# Altium schematic symbol library FPGA_Lattice.SchLib: 24 symbols (part 1 of 3)
Pins are listed as number, name and electrical type; pins without a type are passive.

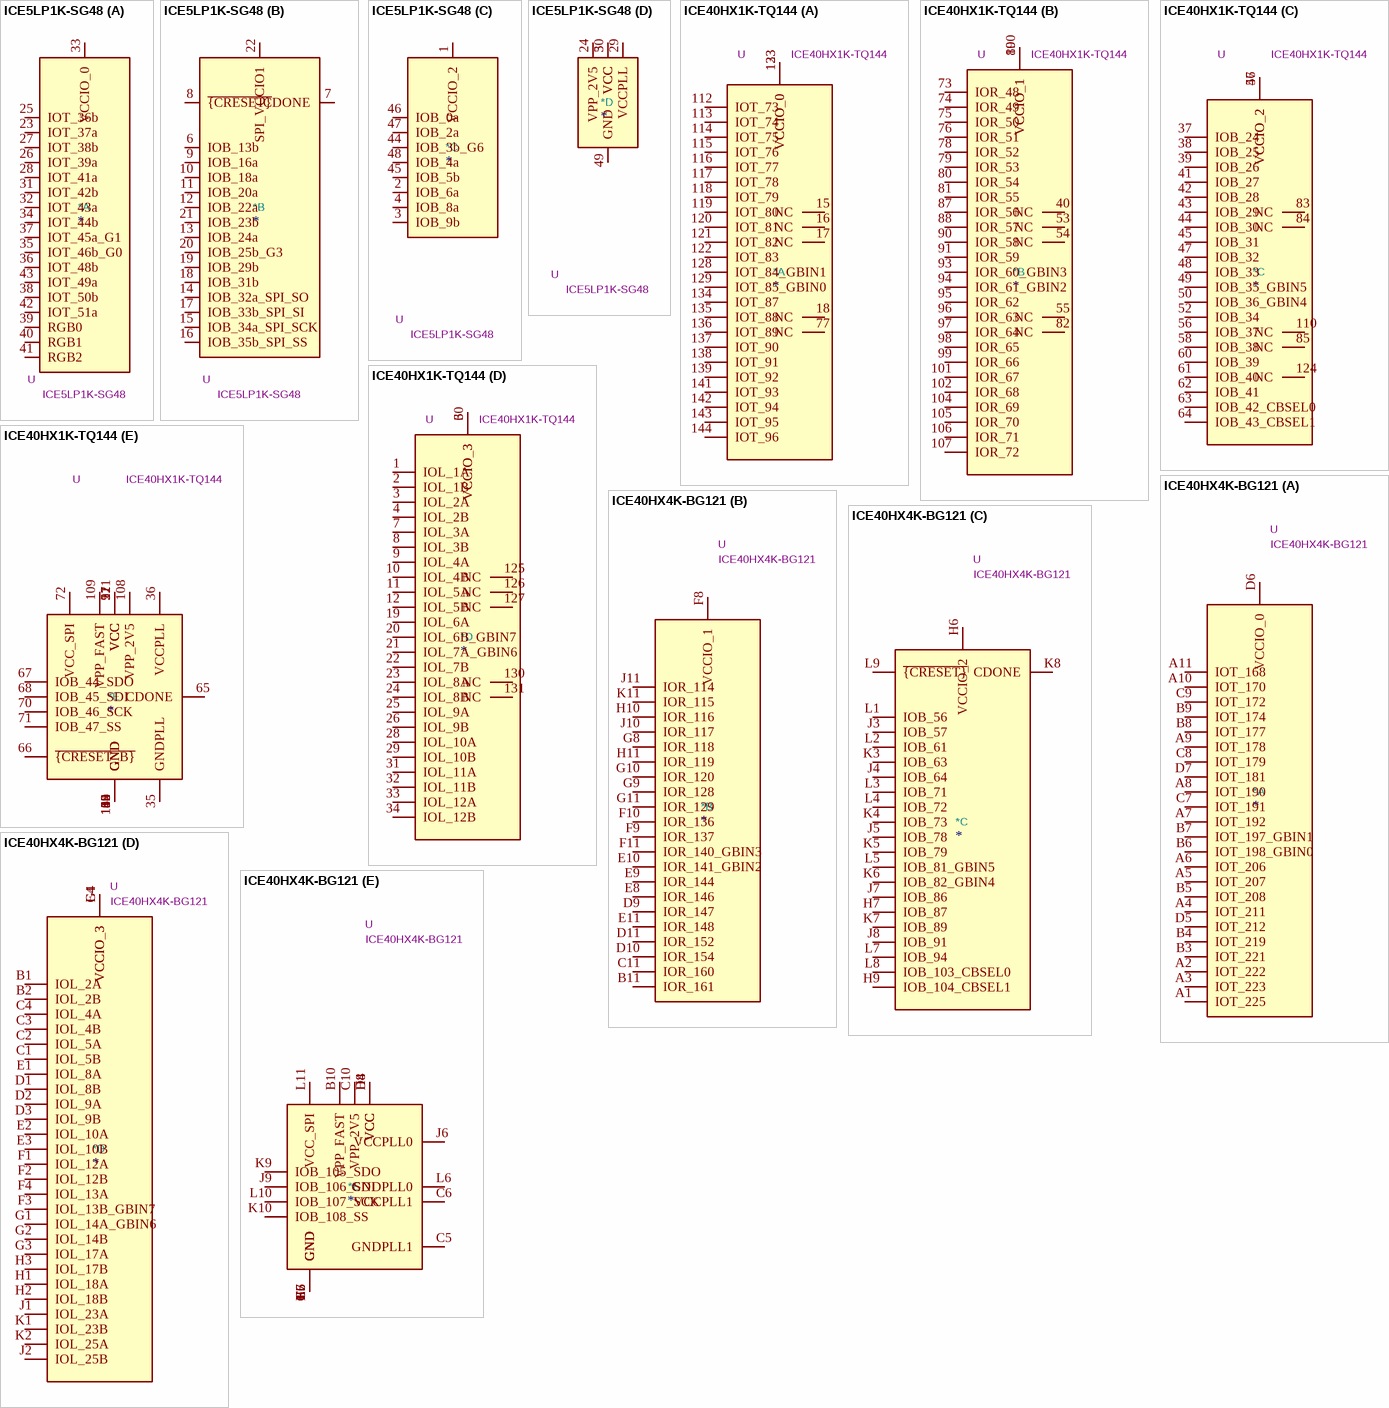
[diagram p0: symbols ICE5LP1K-SG48 to ICE40HX4K-BG121]

## ICE5LP1K-SG48
designator *  value ICE5LP1K-SG48  Reference: U
iCE40 Ultra FPGA, 1100 LUTs, 1.2V, 48-pin QFN; ki_keywords: FPGA programmable logic; ki_fp_filters: QFN*1EP*7x7mm*P0.5mm*; Footprint: Package_DFN_QFN:QFN-48-1EP_7x7mm_P0.5mm_EP5.6x5.6mm; Datasheet: http://www.latticesemi.com/Products/FPGAandCPLD/iCE40Ultra; Description_: iCE40 Ultra FPGA, 1100 LUTs, 1.2V, 48-pin QFN
part A pins: 23 IOT_37a, 25 IOT_36b, 26 IOT_39a, 27 IOT_38b, 28 IOT_41a, 31 IOT_42b, 32 IOT_43a, 33 VCCIO_0, 34 IOT_44b, 35 IOT_46b_G0, 36 IOT_48b, 37 IOT_45a_G1, 38 IOT_50b, 39 RGB0, 40 RGB1, 41 RGB2, 42 IOT_51a, 43 IOT_49a
part B pins: 6 IOB_13b, 7 CDONE, 8 ~{{CRESET}}, 9 IOB_16a, 10 IOB_18a, 11 IOB_20a, 12 IOB_22a, 13 IOB_24a, 14 IOB_32a_SPI_SO, 15 IOB_34a_SPI_SCK, 16 IOB_35b_SPI_SS, 17 IOB_33b_SPI_SI, 18 IOB_31b, 19 IOB_29b, 20 IOB_25b_G3, 21 IOB_23b, 22 SPI_VCCIO1
part C pins: 1 VCCIO_2, 2 IOB_6a, 3 IOB_9b, 4 IOB_8a, 44 IOB_3b_G6, 45 IOB_5b, 46 IOB_0a, 47 IOB_2a, 48 IOB_4a
part D pins: 5 VCC, 24 VPP_2V5, 29 VCCPLL, 30 VCC, 49 GND

## ICE40HX1K-TQ144
designator *  value ICE40HX1K-TQ144  Reference: U
iCE40 HX FPGA, 1280 LUTs, 1.2V, TQFP-144; ki_keywords: FPGA programmable logic; ki_fp_filters: TQFP*20x20mm*P0.5mm*; Footprint: Package_QFP:TQFP-144_20x20mm_P0.5mm; Datasheet: http://www.latticesemi.com/Products/FPGAandCPLD/iCE40; Description_: iCE40 HX FPGA, 1280 LUTs, 1.2V, TQFP-144
part A pins: 15 NC, 16 NC, 17 NC, 18 NC, 77 NC, 112 IOT_73, 113 IOT_74, 114 IOT_75, 115 IOT_76, 116 IOT_77, 117 IOT_78, 118 IOT_79, 119 IOT_80, 120 IOT_81, 121 IOT_82, 122 IOT_83, 123 VCCIO_0, 128 IOT_84_GBIN1, 129 IOT_85_GBIN0, 133 VCCIO_0, 134 IOT_87, 135 IOT_88, 136 IOT_89, 137 IOT_90, 138 IOT_91, 139 IOT_92, 141 IOT_93, 142 IOT_94, 143 IOT_95, 144 IOT_96
part B pins: 40 NC, 53 NC, 54 NC, 55 NC, 73 IOR_48, 74 IOR_49, 75 IOR_50, 76 IOR_51, 78 IOR_52, 79 IOR_53, 80 IOR_54, 81 IOR_55, 82 NC, 87 IOR_56, 88 IOR_57, 89 VCCIO_1, 90 IOR_58, 91 IOR_59, 93 IOR_60_GBIN3, 94 IOR_61_GBIN2, 95 IOR_62, 96 IOR_63, 97 IOR_64, 98 IOR_65, 99 IOR_66, 100 VCCIO_1, 101 IOR_67, 102 IOR_68, 104 IOR_69, 105 IOR_70, 106 IOR_71, 107 IOR_72
part C pins: 37 IOB_24, 38 IOB_25, 39 IOB_26, 41 IOB_27, 42 IOB_28, 43 IOB_29, 44 IOB_30, 45 IOB_31, 46 VCCIO_2, 47 IOB_32, 48 IOB_33, 49 IOB_35_GBIN5, 50 IOB_36_GBIN4, 52 IOB_34, 56 IOB_37, 57 VCCIO_2, 58 IOB_38, 60 IOB_39, 61 IOB_40, 62 IOB_41, 63 IOB_42_CBSEL0, 64 IOB_43_CBSEL1, 83 NC, 84 NC, 85 NC, 110 NC, 124 NC
part D pins: 1 IOL_1A, 2 IOL_1B, 3 IOL_2A, 4 IOL_2B, 6 VCCIO_3, 7 IOL_3A, 8 IOL_3B, 9 IOL_4A, 10 IOL_4B, 11 IOL_5A, 12 IOL_5B, 19 IOL_6A, 20 IOL_6B_GBIN7, 21 IOL_7A_GBIN6, 22 IOL_7B, 23 IOL_8A, 24 IOL_8B, 25 IOL_9A, 26 IOL_9B, 28 IOL_10A, 29 IOL_10B, 30 VCCIO_3, 31 IOL_11A, 32 IOL_11B, 33 IOL_12A, 34 IOL_12B, 125 NC, 126 NC, 127 NC, 130 NC, 131 NC
part E pins: 5 GND, 13 GND, 14 GND, 27 VCC, 35 GNDPLL, 36 VCCPLL, 51 VCC, 59 GND, 65 CDONE, 66 ~{{CRESET_B}}, 67 IOB_44_SDO, 68 IOB_45_SDI, 69 GND, 70 IOB_46_SCK, 71 IOB_47_SS, 72 VCC_SPI, 86 GND, 92 VCC, 103 GND, 108 VPP_2V5, 109 VPP_FAST, 111 VCC, 132 GND, 140 GND

## ICE40HX4K-BG121
designator *  value ICE40HX4K-BG121  Reference: U
iCE40 HX FPGA, 3520 LUTs, 1.2V, BGA-121; ki_keywords: FPGA programmable logic; ki_fp_filters: BGA*9.0x9.0mm*Layout11x11*P0.8mm*Ball0.4mm*; Footprint: Package_BGA:BGA-121_9.0x9.0mm_Layout11x11_P0.8mm_Ball0.4mm_Pad0.35mm_NSMD; Datasheet: http://www.latticesemi.com/Products/FPGAandCPLD/iCE40; Description_: iCE40 HX FPGA, 3520 LUTs, 1.2V, BGA-121
part A pins: A1 IOT_225, A2 IOT_222, A3 IOT_223, A4 IOT_211, A5 IOT_207, A6 IOT_206, A7 IOT_192, A8 IOT_190, A9 IOT_178, A10 IOT_170, A11 IOT_168, B3 IOT_221, B4 IOT_219, B5 IOT_208, B6 IOT_198_GBIN0, B7 IOT_197_GBIN1, B8 IOT_177, B9 IOT_174, C7 IOT_191, C8 IOT_179, C9 IOT_172, D5 IOT_212, D6 VCCIO_0, D7 IOT_181
part B pins: B11 IOR_161, C11 IOR_160, D9 IOR_147, D10 IOR_154, D11 IOR_152, E8 IOR_146, E9 IOR_144, E10 IOR_141_GBIN2, E11 IOR_148, F8 VCCIO_1, F9 IOR_137, F10 IOR_136, F11 IOR_140_GBIN3, G8 IOR_118, G9 IOR_128, G10 IOR_120, G11 IOR_129, H10 IOR_116, H11 IOR_119, J10 IOR_117, J11 IOR_114, K11 IOR_115
part C pins: H6 VCCIO_2, H7 IOB_87, H9 IOB_104_CBSEL1, J3 IOB_57, J4 IOB_64, J5 IOB_78, J7 IOB_86, J8 IOB_91, K3 IOB_63, K4 IOB_73, K5 IOB_79, K6 IOB_82_GBIN4, K7 IOB_89, K8 CDONE, L1 IOB_56, L2 IOB_61, L3 IOB_71, L4 IOB_72, L5 IOB_81_GBIN5, L7 IOB_94, L8 IOB_103_CBSEL0, L9 ~{{CRESET}}
part D pins: B1 IOL_2A, B2 IOL_2B, C1 IOL_5B, C2 IOL_5A, C3 IOL_4B, C4 IOL_4A, D1 IOL_8B, D2 IOL_9A, D3 IOL_9B, E1 IOL_8A, E2 IOL_10A, E3 IOL_10B, E4 VCCIO_3, F1 IOL_12A, F2 IOL_12B, F3 IOL_13B_GBIN7, F4 IOL_13A, G1 IOL_14A_GBIN6, G2 IOL_14B, G3 IOL_17A, G4 VCCIO_3, H1 IOL_18A, H2 IOL_18B, H3 IOL_17B, J1 IOL_23A, J2 IOL_25B, K1 IOL_23B, K2 IOL_25A
part E pins: B10 VPP_FAST, C5 GNDPLL1, C6 VCCPLL1, C10 VPP_2V5, D4 VCC, D8 VCC, E5 GND, E6 GND, E7 GND, F5 GND, F6 GND, F7 GND, G5 GND, G6 GND, G7 GND, H4 VCC, H5 GND, H8 VCC, J6 VCCPLL0, J9 IOB_106_SDI, K9 IOB_105_SDO, K10 IOB_108_SS, L6 GNDPLL0, L10 IOB_107_SCK, L11 VCC_SPI

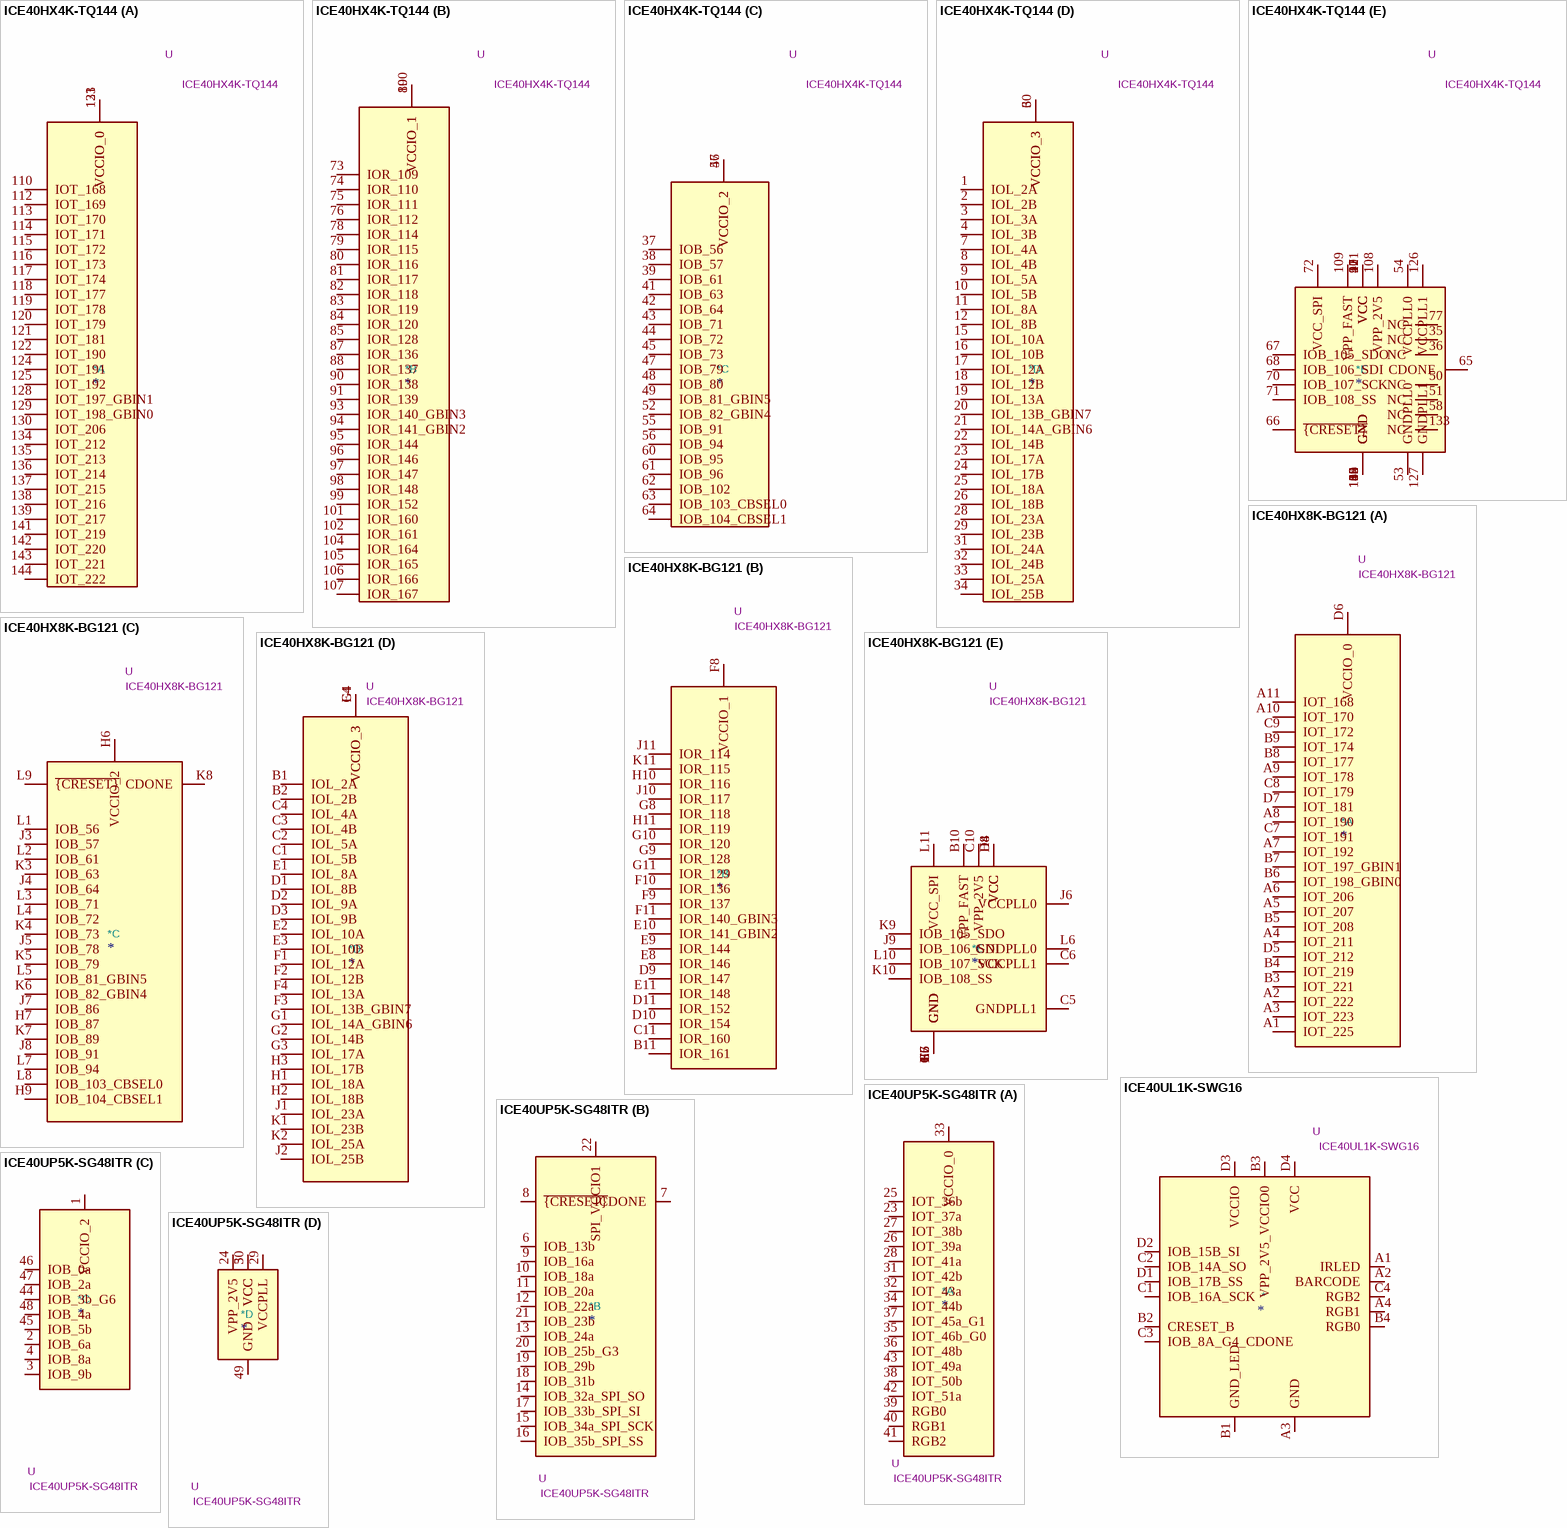
[diagram p1: symbols ICE40HX4K-TQ144 to ICE40UP5K-SG48ITR]

## ICE40HX4K-TQ144
designator *  value ICE40HX4K-TQ144  Reference: U
iCE40 HX FPGA, 3520 LUTs, 1.2V, TQFP-144; ki_keywords: FPGA programmable logic; ki_fp_filters: TQFP*20x20mm*P0.5mm*; Footprint: Package_QFP:TQFP-144_20x20mm_P0.5mm; Datasheet: http://www.latticesemi.com/Products/FPGAandCPLD/iCE40; Description_: iCE40 HX FPGA, 3520 LUTs, 1.2V, TQFP-144
part A pins: 110 IOT_168, 112 IOT_169, 113 IOT_170, 114 IOT_171, 115 IOT_172, 116 IOT_173, 117 IOT_174, 118 IOT_177, 119 IOT_178, 120 IOT_179, 121 IOT_181, 122 IOT_190, 123 VCCIO_0, 124 IOT_191, 125 IOT_192, 128 IOT_197_GBIN1, 129 IOT_198_GBIN0, 130 IOT_206, 131 VCCIO_0, 134 IOT_212, 135 IOT_213, 136 IOT_214, 137 IOT_215, 138 IOT_216, 139 IOT_217, 141 IOT_219, 142 IOT_220, 143 IOT_221, 144 IOT_222
part B pins: 73 IOR_109, 74 IOR_110, 75 IOR_111, 76 IOR_112, 78 IOR_114, 79 IOR_115, 80 IOR_116, 81 IOR_117, 82 IOR_118, 83 IOR_119, 84 IOR_120, 85 IOR_128, 87 IOR_136, 88 IOR_137, 89 VCCIO_1, 90 IOR_138, 91 IOR_139, 93 IOR_140_GBIN3, 94 IOR_141_GBIN2, 95 IOR_144, 96 IOR_146, 97 IOR_147, 98 IOR_148, 99 IOR_152, 100 VCCIO_1, 101 IOR_160, 102 IOR_161, 104 IOR_164, 105 IOR_165, 106 IOR_166, 107 IOR_167
part C pins: 37 IOB_56, 38 IOB_57, 39 IOB_61, 41 IOB_63, 42 IOB_64, 43 IOB_71, 44 IOB_72, 45 IOB_73, 46 VCCIO_2, 47 IOB_79, 48 IOB_80, 49 IOB_81_GBIN5, 52 IOB_82_GBIN4, 55 IOB_91, 56 IOB_94, 57 VCCIO_2, 60 IOB_95, 61 IOB_96, 62 IOB_102, 63 IOB_103_CBSEL0, 64 IOB_104_CBSEL1
part D pins: 1 IOL_2A, 2 IOL_2B, 3 IOL_3A, 4 IOL_3B, 6 VCCIO_3, 7 IOL_4A, 8 IOL_4B, 9 IOL_5A, 10 IOL_5B, 11 IOL_8A, 12 IOL_8B, 15 IOL_10A, 16 IOL_10B, 17 IOL_12A, 18 IOL_12B, 19 IOL_13A, 20 IOL_13B_GBIN7, 21 IOL_14A_GBIN6, 22 IOL_14B, 23 IOL_17A, 24 IOL_17B, 25 IOL_18A, 26 IOL_18B, 28 IOL_23A, 29 IOL_23B, 30 VCCIO_3, 31 IOL_24A, 32 IOL_24B, 33 IOL_25A, 34 IOL_25B
part E pins: 5 GND, 13 GND, 14 GND, 27 VCC, 35 NC, 36 NC, 40 VCC, 50 NC, 51 NC, 53 GNDPLL0, 54 VCCPLL0, 58 NC, 59 GND, 65 CDONE, 66 ~{{CRESET}}, 67 IOB_105_SDO, 68 IOB_106_SDI, 69 GND, 70 IOB_107_SCK, 71 IOB_108_SS, 72 VCC_SPI, 77 NC, 86 GND, 92 VCC, 103 GND, 108 VPP_2V5, 109 VPP_FAST, 111 VCC, 126 VCCPLL1, 127 GNDPLL1, 132 GND, 133 NC, 140 GND

## ICE40HX8K-BG121
designator *  value ICE40HX8K-BG121  Reference: U
iCE40 HX FPGA, 7680 LUTs, 1.2V, BGA-121; ki_keywords: FPGA programmable logic; ki_fp_filters: BGA*9.0x9.0mm*Layout11x11*P0.8mm*Ball0.4mm*; Footprint: Package_BGA:BGA-121_9.0x9.0mm_Layout11x11_P0.8mm_Ball0.4mm_Pad0.35mm_NSMD; Datasheet: http://www.latticesemi.com/Products/FPGAandCPLD/iCE40; Description_: iCE40 HX FPGA, 7680 LUTs, 1.2V, BGA-121
part A pins: A1 IOT_225, A2 IOT_222, A3 IOT_223, A4 IOT_211, A5 IOT_207, A6 IOT_206, A7 IOT_192, A8 IOT_190, A9 IOT_178, A10 IOT_170, A11 IOT_168, B3 IOT_221, B4 IOT_219, B5 IOT_208, B6 IOT_198_GBIN0, B7 IOT_197_GBIN1, B8 IOT_177, B9 IOT_174, C7 IOT_191, C8 IOT_179, C9 IOT_172, D5 IOT_212, D6 VCCIO_0, D7 IOT_181
part B pins: B11 IOR_161, C11 IOR_160, D9 IOR_147, D10 IOR_154, D11 IOR_152, E8 IOR_146, E9 IOR_144, E10 IOR_141_GBIN2, E11 IOR_148, F8 VCCIO_1, F9 IOR_137, F10 IOR_136, F11 IOR_140_GBIN3, G8 IOR_118, G9 IOR_128, G10 IOR_120, G11 IOR_129, H10 IOR_116, H11 IOR_119, J10 IOR_117, J11 IOR_114, K11 IOR_115
part C pins: H6 VCCIO_2, H7 IOB_87, H9 IOB_104_CBSEL1, J3 IOB_57, J4 IOB_64, J5 IOB_78, J7 IOB_86, J8 IOB_91, K3 IOB_63, K4 IOB_73, K5 IOB_79, K6 IOB_82_GBIN4, K7 IOB_89, K8 CDONE, L1 IOB_56, L2 IOB_61, L3 IOB_71, L4 IOB_72, L5 IOB_81_GBIN5, L7 IOB_94, L8 IOB_103_CBSEL0, L9 ~{{CRESET}}
part D pins: B1 IOL_2A, B2 IOL_2B, C1 IOL_5B, C2 IOL_5A, C3 IOL_4B, C4 IOL_4A, D1 IOL_8B, D2 IOL_9A, D3 IOL_9B, E1 IOL_8A, E2 IOL_10A, E3 IOL_10B, E4 VCCIO_3, F1 IOL_12A, F2 IOL_12B, F3 IOL_13B_GBIN7, F4 IOL_13A, G1 IOL_14A_GBIN6, G2 IOL_14B, G3 IOL_17A, G4 VCCIO_3, H1 IOL_18A, H2 IOL_18B, H3 IOL_17B, J1 IOL_23A, J2 IOL_25B, K1 IOL_23B, K2 IOL_25A
part E pins: B10 VPP_FAST, C5 GNDPLL1, C6 VCCPLL1, C10 VPP_2V5, D4 VCC, D8 VCC, E5 GND, E6 GND, E7 GND, F5 GND, F6 GND, F7 GND, G5 GND, G6 GND, G7 GND, H4 VCC, H5 GND, H8 VCC, J6 VCCPLL0, J9 IOB_106_SDI, K9 IOB_105_SDO, K10 IOB_108_SS, L6 GNDPLL0, L10 IOB_107_SCK, L11 VCC_SPI

## ICE40UL1K-SWG16
designator *  value ICE40UL1K-SWG16  Reference: U
iCE40 UltraPlus FPGA, 1.2V, WLCSP-16; ki_keywords: FPGA programmable logic; ki_fp_filters: WLCSP*1.409x1.409mm*Layout4x4*P0.35mm*; Footprint: Package_CSP:WLCSP-16_1.409x1.409mm_Layout4x4_P0.35mm; Datasheet: https://www.latticesemi.com/view_document?document_id=50945; Description_: iCE40 UltraPlus FPGA, 1.2V, WLCSP-16
pins: A1 IRLED, A2 BARCODE, A3 GND, A4 RGB1, B1 GND_LED, B2 CRESET_B, B3 VPP_2V5_VCCIO0, B4 RGB0, C1 IOB_16A_SCK, C2 IOB_14A_SO, C3 IOB_8A_G4_CDONE, C4 RGB2, D1 IOB_17B_SS, D2 IOB_15B_SI, D3 VCCIO, D4 VCC

## ICE40UP5K-SG48ITR
designator *  value ICE40UP5K-SG48ITR  Reference: U
iCE40 UltraPlus FPGA, 5280 LUTs, 1.2V, 48-pin QFN; ki_keywords: FPGA programmable logic; ki_fp_filters: QFN*1EP*7x7mm*P0.5mm*; Footprint: Package_DFN_QFN:QFN-48-1EP_7x7mm_P0.5mm_EP5.6x5.6mm; Datasheet: http://www.latticesemi.com/Products/FPGAandCPLD/iCE40Ultra; Description_: iCE40 UltraPlus FPGA, 5280 LUTs, 1.2V, 48-pin QFN
part A pins: 23 IOT_37a, 25 IOT_36b, 26 IOT_39a, 27 IOT_38b, 28 IOT_41a, 31 IOT_42b, 32 IOT_43a, 33 VCCIO_0, 34 IOT_44b, 35 IOT_46b_G0, 36 IOT_48b, 37 IOT_45a_G1, 38 IOT_50b, 39 RGB0, 40 RGB1, 41 RGB2, 42 IOT_51a, 43 IOT_49a
part B pins: 6 IOB_13b, 7 CDONE, 8 ~{{CRESET}}, 9 IOB_16a, 10 IOB_18a, 11 IOB_20a, 12 IOB_22a, 13 IOB_24a, 14 IOB_32a_SPI_SO, 15 IOB_34a_SPI_SCK, 16 IOB_35b_SPI_SS, 17 IOB_33b_SPI_SI, 18 IOB_31b, 19 IOB_29b, 20 IOB_25b_G3, 21 IOB_23b, 22 SPI_VCCIO1
part C pins: 1 VCCIO_2, 2 IOB_6a, 3 IOB_9b, 4 IOB_8a, 44 IOB_3b_G6, 45 IOB_5b, 46 IOB_0a, 47 IOB_2a, 48 IOB_4a
part D pins: 5 VCC, 24 VPP_2V5, 29 VCCPLL, 30 VCC, 49 GND

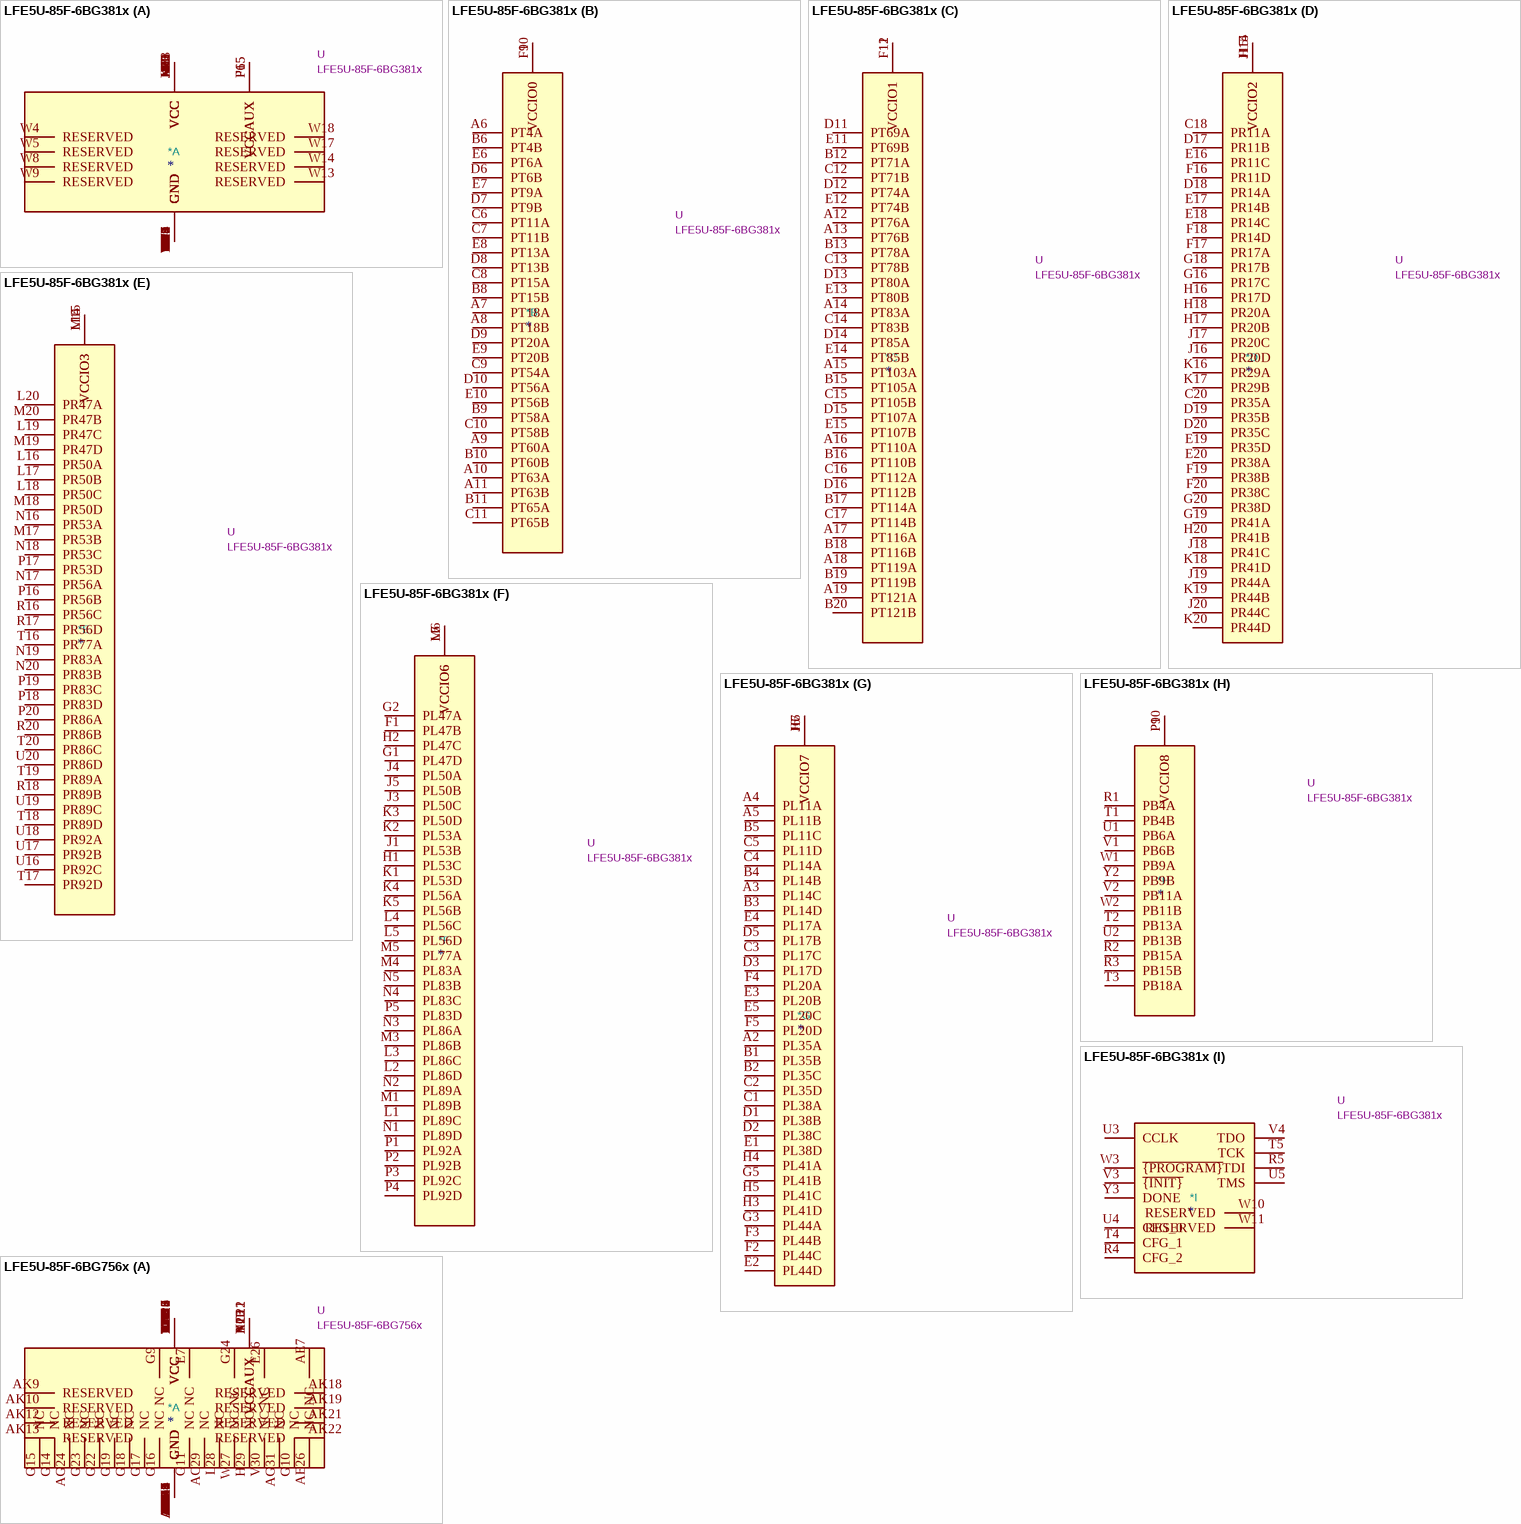
[diagram p2: symbols LFE5U-85F-6BG381x to LFE5U-85F-6BG756x]

## LFE5U-85F-6BG381x
designator *  value LFE5U-85F-6BG381x  Reference: U
ECP5 FPGA, 84K LUTs, 1.2V, BGA-381; ki_keywords: FPGA programmable logic; ki_fp_filters: Lattice?caBGA*17x17mm*Layout20x20*P0.8mm*; Footprint: Package_BGA:Lattice_caBGA-381_17x17mm_Layout20x20_P0.8mm; Datasheet: https://www.latticesemi.com/view_document?document_id=50461; Description_: ECP5 FPGA, 84K LUTs, 1.2V, BGA-381
part A pins: B7 GND, B14 GND, C19 GND, D4 GND, F6 VCCAUX, F7 GND, F8 GND, F13 GND, F14 GND, F15 VCCAUX, G4 GND, G6 GND, G7 GND, G8 GND, G9 GND, G10 GND, G11 GND, G12 GND, G13 GND, G14 GND, G15 GND, G17 GND, H8 VCC, H9 VCC, H10 VCC, H11 VCC, H12 VCC, H13 VCC, H19 GND, J2 GND, J7 GND, J8 VCC, J9 GND, J10 GND, J11 GND, J12 GND, J13 VCC, J14 GND, K6 GND, K7 GND, K8 VCC, K9 GND, K10 GND, K11 GND, K12 GND, K13 VCC, K14 GND, K15 GND, L8 VCC, L9 GND, L10 GND, L11 GND, L12 GND, L13 VCC, M2 GND, M7 GND, M8 VCC, M9 GND, M10 GND, M11 GND, M12 GND, M13 VCC, M14 GND, M16 GND, N6 GND, N7 GND, N8 VCC, N9 VCC, N10 VCC, N11 VCC, N12 VCC, N13 VCC, N14 GND, N15 GND, P6 VCCAUX, P7 GND, P8 GND, P11 GND, P12 GND, P13 GND, P14 GND, P15 VCCAUX, R19 GND, T6 GND, T7 GND, T8 GND, T9 GND, T10 GND, T11 GND, T12 GND, T13 GND, T14 GND, T15 GND, U6 GND, U7 GND, U8 GND, U9 GND, U10 GND, U11 GND, U12 GND, U13 GND, U14 GND, U15 GND, V5 GND, V6 GND, V7 GND, V8 GND, V9 GND, V10 GND, V11 GND, V12 GND, V13 GND, V14 GND, V15 GND, V16 GND, V17 GND, V18 GND, V19 GND, V20 GND, W4 RESERVED, W5 RESERVED, W6 GND, W7 GND, W8 RESERVED, W9 RESERVED, W12 GND, W13 RESERVED, W14 RESERVED, W15 GND, W16 GND, W17 RESERVED, W18 RESERVED, W19 GND, W20 GND, Y5 GND, Y6 GND, Y7 GND, Y8 GND, Y11 GND, Y12 GND, Y14 GND, Y15 GND, Y16 GND, Y17 GND, Y19 GND
part B pins: A6 PT4A, A7 PT18A, A8 PT18B, A9 PT60A, A10 PT63A, A11 PT63B, B6 PT4B, B8 PT15B, B9 PT58A, B10 PT60B, B11 PT65A, C6 PT11A, C7 PT11B, C8 PT15A, C9 PT54A, C10 PT58B, C11 PT65B, D6 PT6B, D7 PT9B, D8 PT13B, D9 PT20A, D10 PT56A, E6 PT6A, E7 PT9A, E8 PT13A, E9 PT20B, E10 PT56B, F9 VCCIO0, F10 VCCIO0
part C pins: A12 PT76A, A13 PT76B, A14 PT83A, A15 PT103A, A16 PT110A, A17 PT116A, A18 PT119A, A19 PT121A, B12 PT71A, B13 PT78A, B15 PT105A, B16 PT110B, B17 PT114A, B18 PT116B, B19 PT119B, B20 PT121B, C12 PT71B, C13 PT78B, C14 PT83B, C15 PT105B, C16 PT112A, C17 PT114B, D11 PT69A, D12 PT74A, D13 PT80A, D14 PT85A, D15 PT107A, D16 PT112B, E11 PT69B, E12 PT74B, E13 PT80B, E14 PT85B, E15 PT107B, F11 VCCIO1, F12 VCCIO1
part D pins: C18 PR11A, C20 PR35A, D17 PR11B, D18 PR14A, D19 PR35B, D20 PR35C, E16 PR11C, E17 PR14B, E18 PR14C, E19 PR35D, E20 PR38A, F16 PR11D, F17 PR17A, F18 PR14D, F19 PR38B, F20 PR38C, G16 PR17C, G18 PR17B, G19 PR41A, G20 PR38D, H14 VCCIO2, H15 VCCIO2, H16 PR17D, H17 PR20B, H18 PR20A, H20 PR41B, J15 VCCIO2, J16 PR20D, J17 PR20C, J18 PR41C, J19 PR44A, J20 PR44C, K16 PR29A, K17 PR29B, K18 PR41D, K19 PR44B, K20 PR44D
part E pins: L14 VCCIO3, L15 VCCIO3, L16 PR50A, L17 PR50B, L18 PR50C, L19 PR47C, L20 PR47A, M15 VCCIO3, M17 PR53B, M18 PR50D, M19 PR47D, M20 PR47B, N16 PR53A, N17 PR56A, N18 PR53C, N19 PR83A, N20 PR83B, P16 PR56B, P17 PR53D, P18 PR83D, P19 PR83C, P20 PR86A, R16 PR56C, R17 PR56D, R18 PR89B, R20 PR86B, T16 PR77A, T17 PR92D, T18 PR89D, T19 PR89A, T20 PR86C, U16 PR92C, U17 PR92B, U18 PR92A, U19 PR89C, U20 PR86D
part F pins: F1 PL47B, G1 PL47D, G2 PL47A, H1 PL53C, H2 PL47C, J1 PL53B, J3 PL50C, J4 PL50A, J5 PL50B, K1 PL53D, K2 PL53A, K3 PL50D, K4 PL56A, K5 PL56B, L1 PL89C, L2 PL86D, L3 PL86C, L4 PL56C, L5 PL56D, L6 VCCIO6, L7 VCCIO6, M1 PL89B, M3 PL86B, M4 PL83A, M5 PL77A, M6 VCCIO6, N1 PL89D, N2 PL89A, N3 PL86A, N4 PL83C, N5 PL83B, P1 PL92A, P2 PL92B, P3 PL92C, P4 PL92D, P5 PL83D
part G pins: A2 PL35A, A3 PL14C, A4 PL11A, A5 PL11B, B1 PL35B, B2 PL35C, B3 PL14D, B4 PL14B, B5 PL11C, C1 PL38A, C2 PL35D, C3 PL17C, C4 PL14A, C5 PL11D, D1 PL38B, D2 PL38C, D3 PL17D, D5 PL17B, E1 PL38D, E2 PL44D, E3 PL20B, E4 PL17A, E5 PL20C, F2 PL44C, F3 PL44B, F4 PL20A, F5 PL20D, G3 PL44A, G5 PL41B, H3 PL41D, H4 PL41A, H5 PL41C, H6 VCCIO7, H7 VCCIO7, J6 VCCIO7
part H pins: P9 VCCIO8, P10 VCCIO8, R1 PB4A, R2 PB15A, R3 PB15B, T1 PB4B, T2 PB13A, T3 PB18A, U1 PB6A, U2 PB13B, V1 PB6B, V2 PB11A, W1 PB9A, W2 PB11B, Y2 PB9B
part I pins: R4 CFG_2, R5 TDI, T4 CFG_1, T5 TCK, U3 CCLK, U4 CFG_0, U5 TMS, V3 ~{{INIT}}, V4 TDO, W3 ~{{PROGRAM}}, W10 RESERVED, W11 RESERVED, Y3 DONE

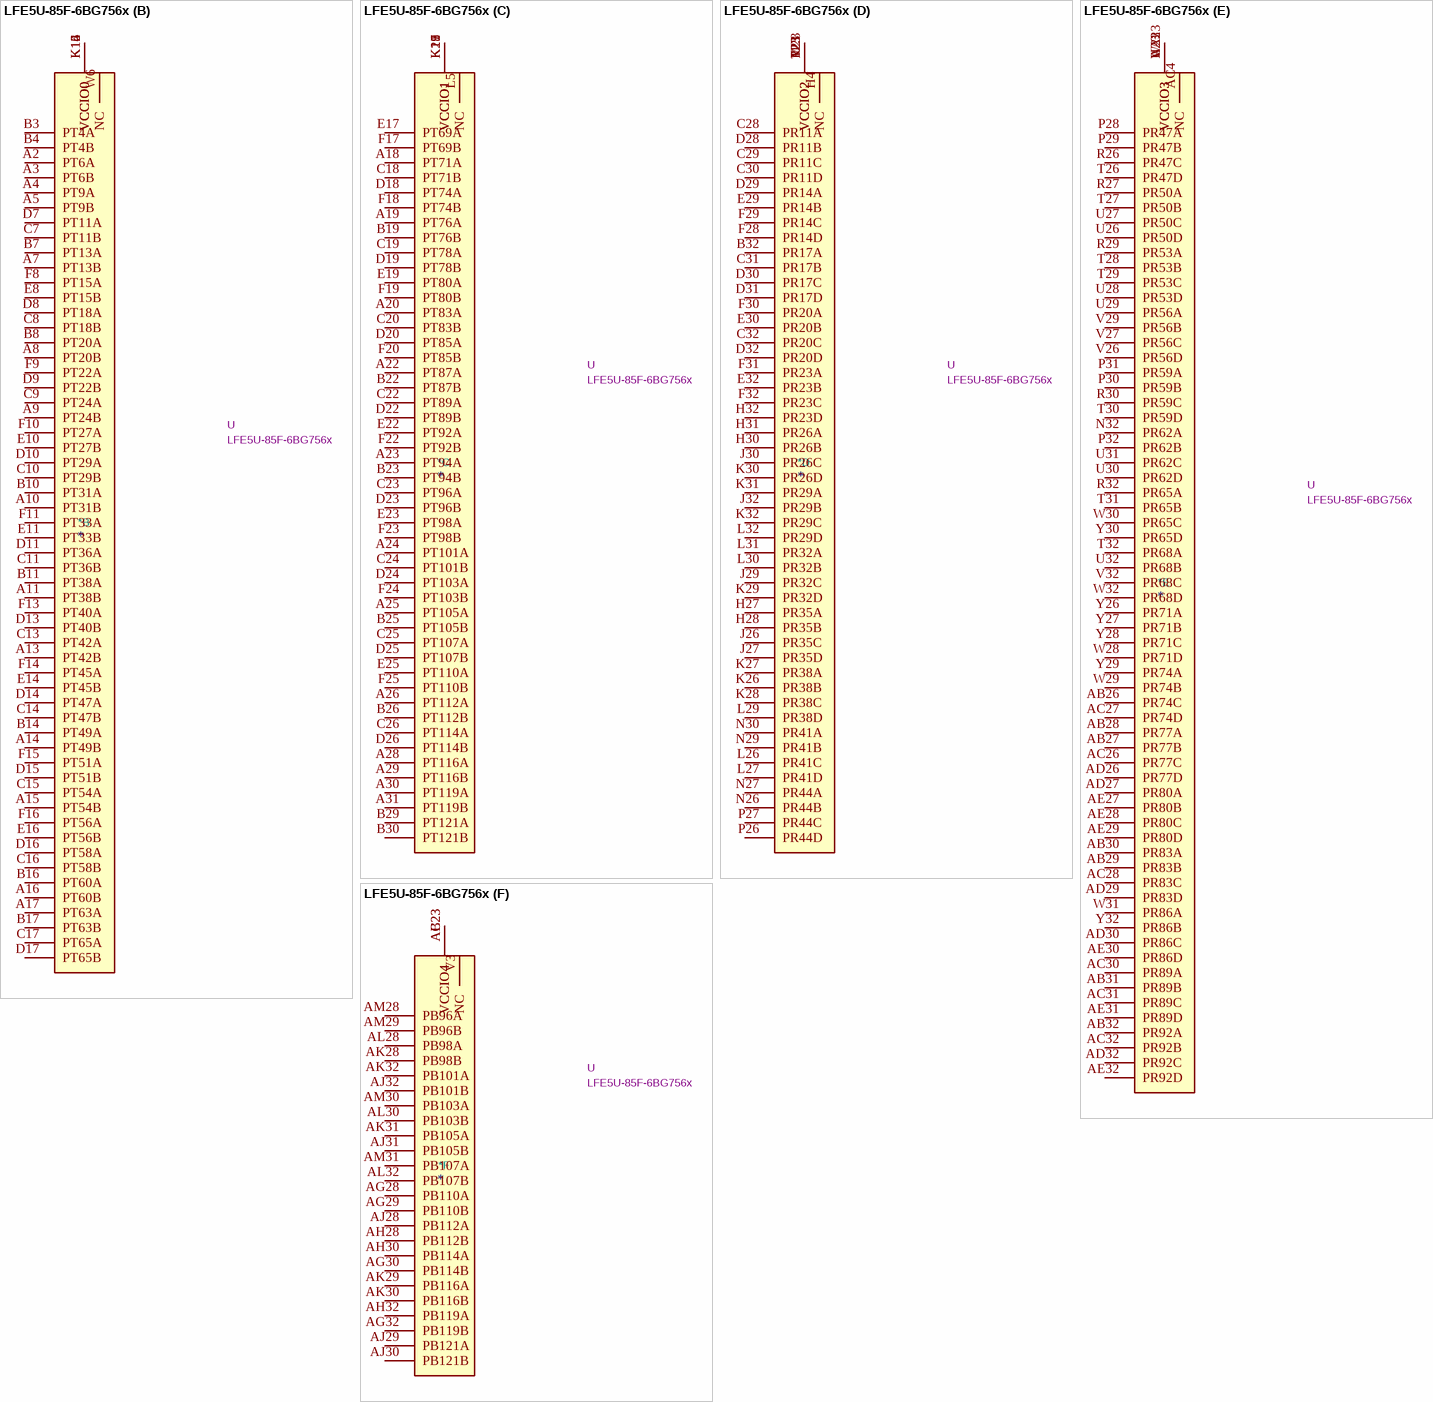
[diagram p3: symbol LFE5U-85F-6BG756x]

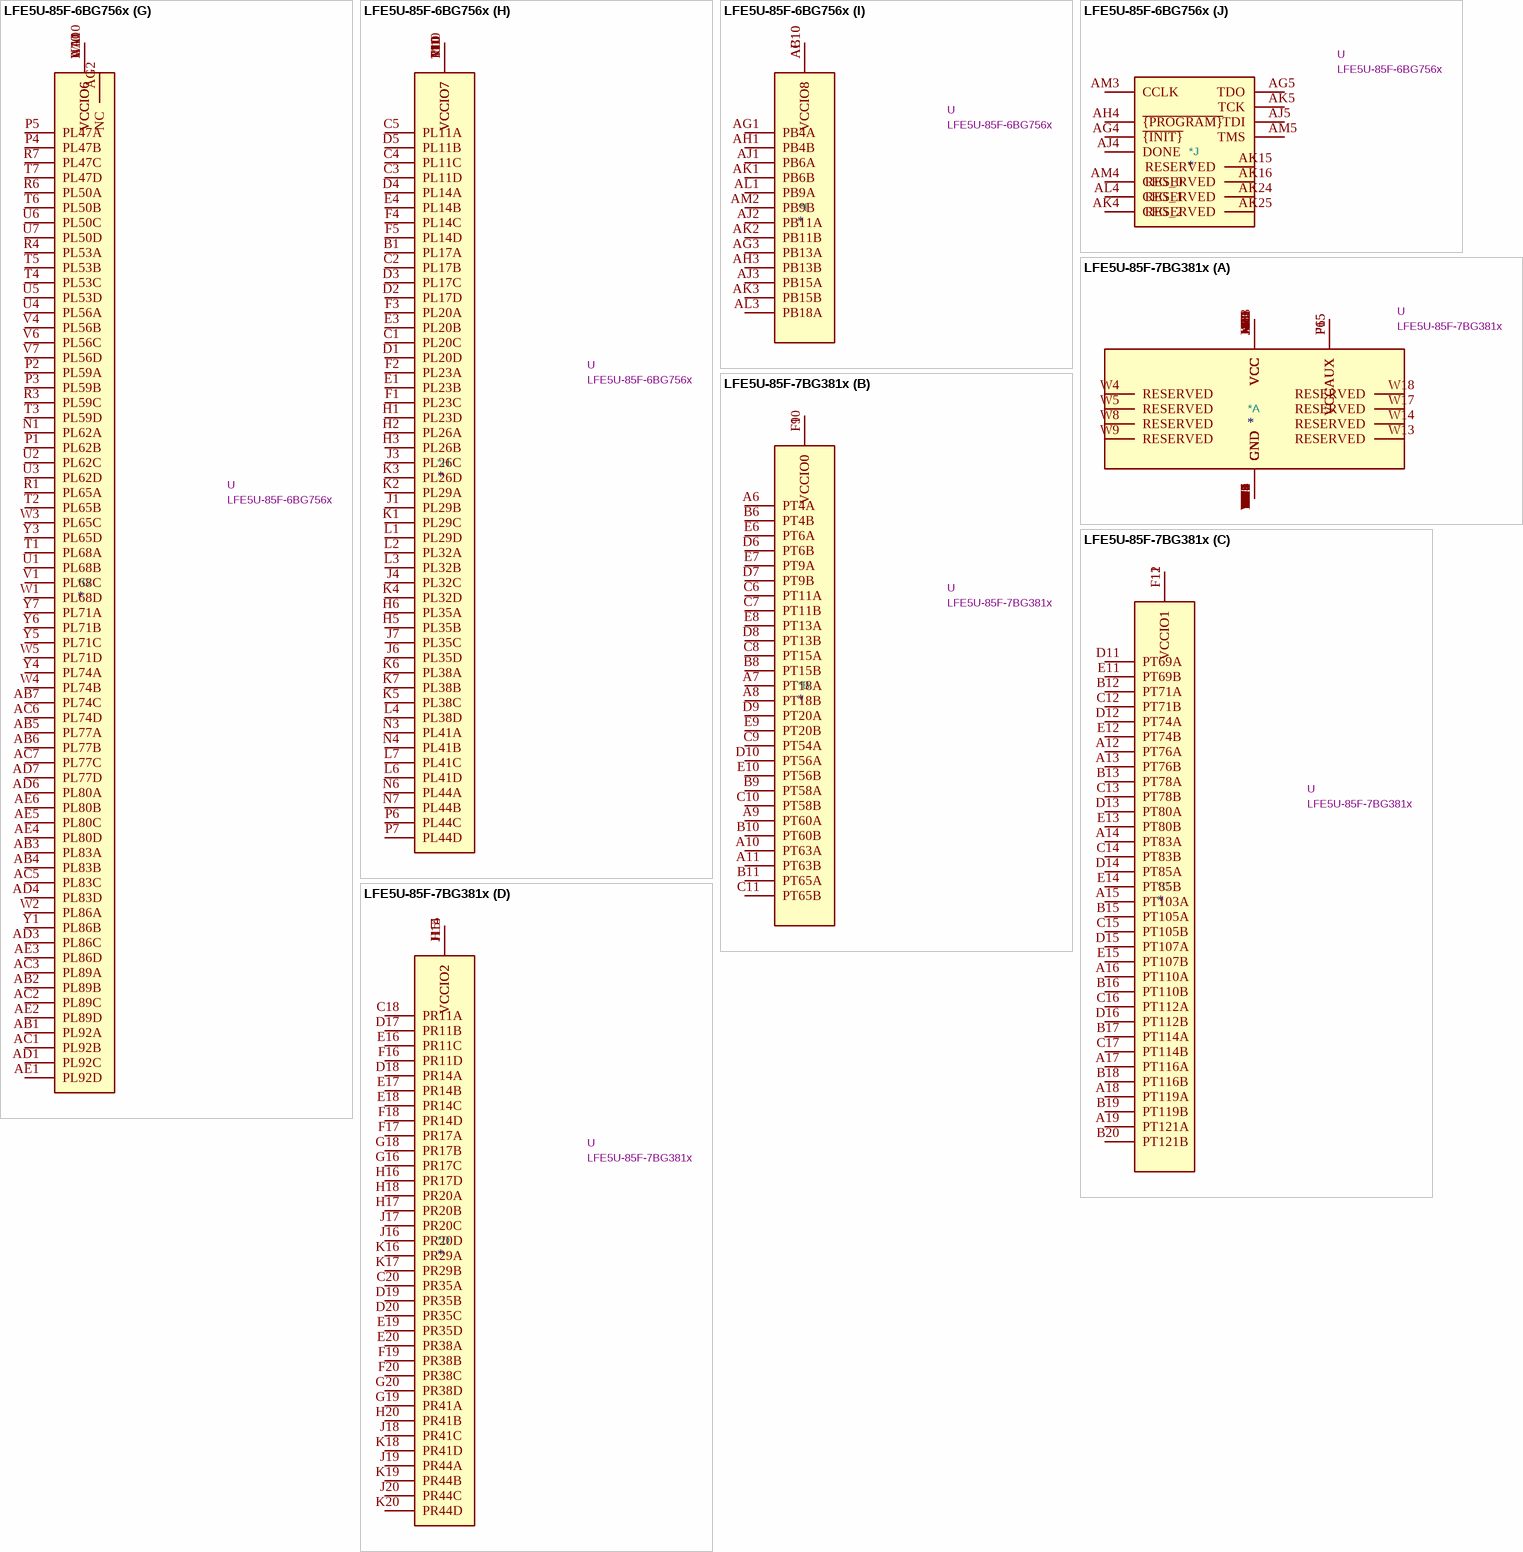
[diagram p4: symbols LFE5U-85F-6BG756x to LFE5U-85F-7BG381x]

## LFE5U-85F-6BG756x
designator *  value LFE5U-85F-6BG756x  Reference: U
ECP5 FPGA, 84K LUTs, 1.2V, BGA-756; ki_keywords: FPGA programmable logic; ki_fp_filters: Lattice*caBGA*27x27mm*Layout32x32*P0.8mm*; Footprint: Package_BGA:Lattice_caBGA-756_27x27mm_Layout32x32_P0.8mm; Datasheet: https://www.latticesemi.com/view_document?document_id=50461; Description_: ECP5 FPGA, 84K LUTs, 1.2V, BGA-756
part A pins: AA11 GND, AA12 VCC, AA13 VCC, AA14 VCC, AA15 VCC, AA16 VCC, AA17 VCC, AA18 VCC, AA19 VCC, AA20 VCC, AA21 VCC, AA22 GND, AB11 GND, AB12 GND, AB13 GND, AB14 GND, AB15 GND, AB16 GND, AB17 GND, AB18 GND, AB19 GND, AB20 GND, AB21 GND, AB22 GND, AC11 VCCAUX, AC12 GND, AC13 GND, AC14 GND, AC15 GND, AC16 GND, AC17 GND, AC18 GND, AC19 GND, AC20 GND, AC21 GND, AC22 VCCAUX, AC29 NC, AD2 GND, AD5 GND, AD28 GND, AD31 GND, AE7 NC, AE26 NC, AF11 GND, AF12 GND, AF14 GND, AF15 GND, AF16 GND, AF17 GND, AF19 GND, AF20 GND, AF22 GND, AF23 GND, AG9 GND, AG11 GND, AG12 GND, AG14 GND, AG15 GND, AG16 GND, AG17 GND, AG19 GND, AG20 GND, AG22 GND, AG23 GND, AG24 NC, AG31 NC, AH2 GND, AH5 GND, AH7 GND, AH8 GND, AH9 GND, AH11 GND, AH12 GND, AH14 GND, AH15 GND, AH16 GND, AH17 GND, AH19 GND, AH20 GND, AH22 GND, AH23 GND, AH24 GND, AH25 GND, AH26 GND, AH29 GND, AH31 GND, AJ7 GND, AJ8 GND, AJ9 GND, AJ10 GND, AJ11 GND, AJ12 GND, AJ13 GND, AJ14 GND, AJ15 GND, AJ16 GND, AJ17 GND, AJ18 GND, AJ19 GND, AJ20 GND, AJ21 GND, AJ22 GND, AJ23 GND, AJ24 GND, AJ25 GND, AJ26 GND, AK7 GND, AK8 GND, AK9 RESERVED, AK10 RESERVED, AK11 GND, AK12 RESERVED, AK13 RESERVED, AK14 GND, AK17 GND, AK18 RESERVED, AK19 RESERVED, AK20 GND, AK21 RESERVED, AK22 RESERVED, AK23 GND, AK26 GND, AL2 GND, AL5 GND, AL7 GND, AL8 GND, AL9 GND, AL11 GND, AL12 GND, AL14 GND, AL15 GND, AL17 GND, AL18 GND, AL20 GND, AL21 GND, AL23 GND, AL24 GND, AL26 GND, AL29 GND, AL31 GND, AM7 GND, AM8 GND, AM9 GND, AM11 GND, AM12 GND, AM14 GND, AM15 GND, AM17 GND, AM18 GND, AM20 GND, AM21 GND, AM23 GND, AM24 GND, AM26 GND, B2 GND, B5 GND, B9 GND, B13 GND, B15 GND, B18 GND, B20 GND, B24 GND, B28 GND, B31 GND, E2 GND, E5 GND, E7 NC, E9 GND, E13 GND, E15 GND, E18 GND, E20 GND, E24 GND, E26 NC, E28 GND, E31 GND, G9 NC, G10 NC, G11 NC, G14 NC, G15 NC, G16 NC, G17 NC, G18 NC, G19 NC, G22 NC, G23 NC, G24 NC, H29 NC, J2 GND, J5 GND, J28 GND, J31 GND, K10 GND, K11 GND, K13 VCCAUX, K20 VCCAUX, K22 GND, K23 GND, L10 GND, L11 GND, L12 GND, L13 GND, L14 GND, L15 GND, L16 GND, L17 GND, L18 GND, L19 GND, L20 GND, L21 GND, L22 GND, L23 GND, L28 NC, M11 GND, M12 VCC, M13 VCC, M14 VCC, M15 VCC, M16 VCC, M17 VCC, M18 VCC, M19 VCC, M20 VCC, M21 VCC, M22 GND, N2 GND, N5 GND, N10 VCCAUX, N11 GND, N12 VCC, N13 GND, N14 GND, N15 GND, N16 GND, N17 GND, N18 GND, N19 GND, N20 GND, N21 VCC, N22 GND, N23 VCCAUX, N28 GND, N31 GND, P11 GND, P12 VCC, P13 GND, P14 GND, P15 GND, P16 GND, P17 GND, P18 GND, P19 GND, P20 GND, P21 VCC, P22 GND, R2 GND, R5 GND, R11 GND, R12 VCC, R13 GND, R14 GND, R15 GND, R16 GND, R17 GND, R18 GND, R19 GND, R20 GND, R21 VCC, R22 GND, R28 GND, R31 GND, T11 GND, T12 VCC, T13 GND, T14 GND, T15 GND, T16 GND, T17 GND, T18 GND, T19 GND, T20 GND, T21 VCC, T22 GND, U11 GND, U12 VCC, U13 GND, U14 GND, U15 GND, U16 GND, U17 GND, U18 GND, U19 GND, U20 GND, U21 VCC, U22 GND, V2 GND, V5 GND, V11 GND, V12 VCC, V13 GND, V14 GND, V15 GND, V16 GND, V17 GND, V18 GND, V19 GND, V20 GND, V21 VCC, V22 GND, V28 GND, V30 NC, V31 GND, W11 GND, W12 VCC, W13 GND, W14 GND, W15 GND, W16 GND, W17 GND, W18 GND, W19 GND, W20 GND, W21 VCC, W22 GND, W27 NC, Y2 GND, Y10 VCCAUX, Y11 GND, Y12 VCC, Y13 GND, Y14 GND, Y15 GND, Y16 GND, Y17 GND, Y18 GND, Y19 GND, Y20 GND, Y21 VCC, Y22 GND, Y23 VCCAUX, Y31 GND
part B pins: A2 PT6A, A3 PT6B, A4 PT9A, A5 PT9B, A7 PT13B, A8 PT20B, A9 PT24B, A10 PT31B, A11 PT38B, A13 PT42B, A14 PT49B, A15 PT54B, A16 PT60B, A17 PT63A, B3 PT4A, B4 PT4B, B7 PT13A, B8 PT20A, B10 PT31A, B11 PT38A, B14 PT49A, B16 PT60A, B17 PT63B, C7 PT11B, C8 PT18B, C9 PT24A, C10 PT29B, C11 PT36B, C13 PT42A, C14 PT47B, C15 PT54A, C16 PT58B, C17 PT65A, D7 PT11A, D8 PT18A, D9 PT22B, D10 PT29A, D11 PT36A, D13 PT40B, D14 PT47A, D15 PT51B, D16 PT58A, D17 PT65B, E8 PT15B, E10 PT27B, E11 PT33B, E14 PT45B, E16 PT56B, F8 PT15A, F9 PT22A, F10 PT27A, F11 PT33A, F13 PT40A, F14 PT45A, F15 PT51A, F16 PT56A, K12 VCCIO0, K14 VCCIO0, K15 VCCIO0, K16 VCCIO0, W6 NC
part C pins: A18 PT71A, A19 PT76A, A20 PT83A, A22 PT87A, A23 PT94A, A24 PT101A, A25 PT105A, A26 PT112A, A28 PT116A, A29 PT116B, A30 PT119A, A31 PT119B, B19 PT76B, B22 PT87B, B23 PT94B, B25 PT105B, B26 PT112B, B29 PT121A, B30 PT121B, C18 PT71B, C19 PT78A, C20 PT83B, C22 PT89A, C23 PT96A, C24 PT101B, C25 PT107A, C26 PT114A, D18 PT74A, D19 PT78B, D20 PT85A, D22 PT89B, D23 PT96B, D24 PT103A, D25 PT107B, D26 PT114B, E17 PT69A, E19 PT80A, E22 PT92A, E23 PT98A, E25 PT110A, F17 PT69B, F18 PT74B, F19 PT80B, F20 PT85B, F22 PT92B, F23 PT98B, F24 PT103B, F25 PT110B, K17 VCCIO1, K18 VCCIO1, K19 VCCIO1, K21 VCCIO1, L5 NC
part D pins: B32 PR17A, C28 PR11A, C29 PR11C, C30 PR11D, C31 PR17B, C32 PR20C, D28 PR11B, D29 PR14A, D30 PR17C, D31 PR17D, D32 PR20D, E29 PR14B, E30 PR20B, E32 PR23B, F28 PR14D, F29 PR14C, F30 PR20A, F31 PR23A, F32 PR23C, H4 NC, H27 PR35A, H28 PR35B, H30 PR26B, H31 PR26A, H32 PR23D, J26 PR35C, J27 PR35D, J29 PR32C, J30 PR26C, J32 PR29B, K26 PR38B, K27 PR38A, K28 PR38C, K29 PR32D, K30 PR26D, K31 PR29A, K32 PR29C, L26 PR41C, L27 PR41D, L29 PR38D, L30 PR32B, L31 PR32A, L32 PR29D, M23 VCCIO2, N26 PR44B, N27 PR44A, N29 PR41B, N30 PR41A, P23 VCCIO2, P26 PR44D, P27 PR44C, R23 VCCIO2, T23 VCCIO2
part E pins: AA23 VCCIO3, AB26 PR74C, AB27 PR77B, AB28 PR77A, AB29 PR83B, AB30 PR83A, AB31 PR89B, AB32 PR92A, AC4 NC, AC26 PR77C, AC27 PR74D, AC28 PR83C, AC30 PR89A, AC31 PR89C, AC32 PR92B, AD26 PR77D, AD27 PR80A, AD29 PR83D, AD30 PR86C, AD32 PR92C, AE27 PR80B, AE28 PR80C, AE29 PR80D, AE30 PR86D, AE31 PR89D, AE32 PR92D, N32 PR62A, P28 PR47A, P29 PR47B, P30 PR59B, P31 PR59A, P32 PR62B, R26 PR47C, R27 PR50A, R29 PR53A, R30 PR59C, R32 PR65A, T26 PR47D, T27 PR50B, T28 PR53B, T29 PR53C, T30 PR59D, T31 PR65B, T32 PR68A, U23 VCCIO3, U26 PR50D, U27 PR50C, U28 PR53D, U29 PR56A, U30 PR62D, U31 PR62C, U32 PR68B, V23 VCCIO3, V26 PR56D, V27 PR56C, V29 PR56B, V32 PR68C, W23 VCCIO3, W28 PR71D, W29 PR74B, W30 PR65C, W31 PR86A, W32 PR68D, Y26 PR71A, Y27 PR71B, Y28 PR71C, Y29 PR74A, Y30 PR65D, Y32 PR86B
part F pins: AB23 VCCIO4, AC23 VCCIO4, AG28 PB110A, AG29 PB110B, AG30 PB114B, AG32 PB119B, AH28 PB112B, AH30 PB114A, AH32 PB119A, AJ28 PB112A, AJ29 PB121A, AJ30 PB121B, AJ31 PB105B, AJ32 PB101B, AK28 PB98B, AK29 PB116A, AK30 PB116B, AK31 PB105A, AK32 PB101A, AL28 PB98A, AL30 PB103B, AL32 PB107B, AM28 PB96A, AM29 PB96B, AM30 PB103A, AM31 PB107A, V3 NC
part G pins: AA10 VCCIO6, AB1 PL92A, AB2 PL89B, AB3 PL83A, AB4 PL83B, AB5 PL77A, AB6 PL77B, AB7 PL74C, AC1 PL92B, AC2 PL89C, AC3 PL89A, AC5 PL83C, AC6 PL74D, AC7 PL77C, AD1 PL92C, AD3 PL86C, AD4 PL83D, AD6 PL80A, AD7 PL77D, AE1 PL92D, AE2 PL89D, AE3 PL86D, AE4 PL80D, AE5 PL80C, AE6 PL80B, AG2 NC, N1 PL62A, P1 PL62B, P2 PL59A, P3 PL59B, P4 PL47B, P5 PL47A, R1 PL65A, R3 PL59C, R4 PL53A, R6 PL50A, R7 PL47C, T1 PL68A, T2 PL65B, T3 PL59D, T4 PL53C, T5 PL53B, T6 PL50B, T7 PL47D, U1 PL68B, U2 PL62C, U3 PL62D, U4 PL56A, U5 PL53D, U6 PL50C, U7 PL50D, U10 VCCIO6, V1 PL68C, V4 PL56B, V6 PL56C, V7 PL56D, V10 VCCIO6, W1 PL68D, W2 PL86A, W3 PL65C, W4 PL74B, W5 PL71D, W10 VCCIO6, Y1 PL86B, Y3 PL65D, Y4 PL74A, Y5 PL71C, Y6 PL71B, Y7 PL71A
part H pins: B1 PL17A, C1 PL20C, C2 PL17B, C3 PL11D, C4 PL11C, C5 PL11A, D1 PL20D, D2 PL17D, D3 PL17C, D4 PL14A, D5 PL11B, E1 PL23B, E3 PL20B, E4 PL14B, F1 PL23C, F2 PL23A, F3 PL20A, F4 PL14C, F5 PL14D, H1 PL23D, H2 PL26A, H3 PL26B, H5 PL35B, H6 PL35A, J1 PL29B, J3 PL26C, J4 PL32C, J6 PL35D, J7 PL35C, K1 PL29C, K2 PL29A, K3 PL26D, K4 PL32D, K5 PL38C, K6 PL38A, K7 PL38B, L1 PL29D, L2 PL32A, L3 PL32B, L4 PL38D, L6 PL41D, L7 PL41C, M10 VCCIO7, N3 PL41A, N4 PL41B, N6 PL44A, N7 PL44B, P6 PL44C, P7 PL44D, P10 VCCIO7, R10 VCCIO7, T10 VCCIO7
part I pins: AB10 VCCIO8, AC10 VCCIO8, AG1 PB4A, AG3 PB13A, AH1 PB4B, AH3 PB13B, AJ1 PB6A, AJ2 PB11A, AJ3 PB15A, AK1 PB6B, AK2 PB11B, AK3 PB15B, AL1 PB9A, AL3 PB18A, AM2 PB9B
part J pins: AG4 ~{{INIT}}, AG5 TDO, AH4 ~{{PROGRAM}}, AJ4 DONE, AJ5 TDI, AK4 CFG_2, AK5 TCK, AK15 RESERVED, AK16 RESERVED, AK24 RESERVED, AK25 RESERVED, AL4 CFG_1, AM3 CCLK, AM4 CFG_0, AM5 TMS

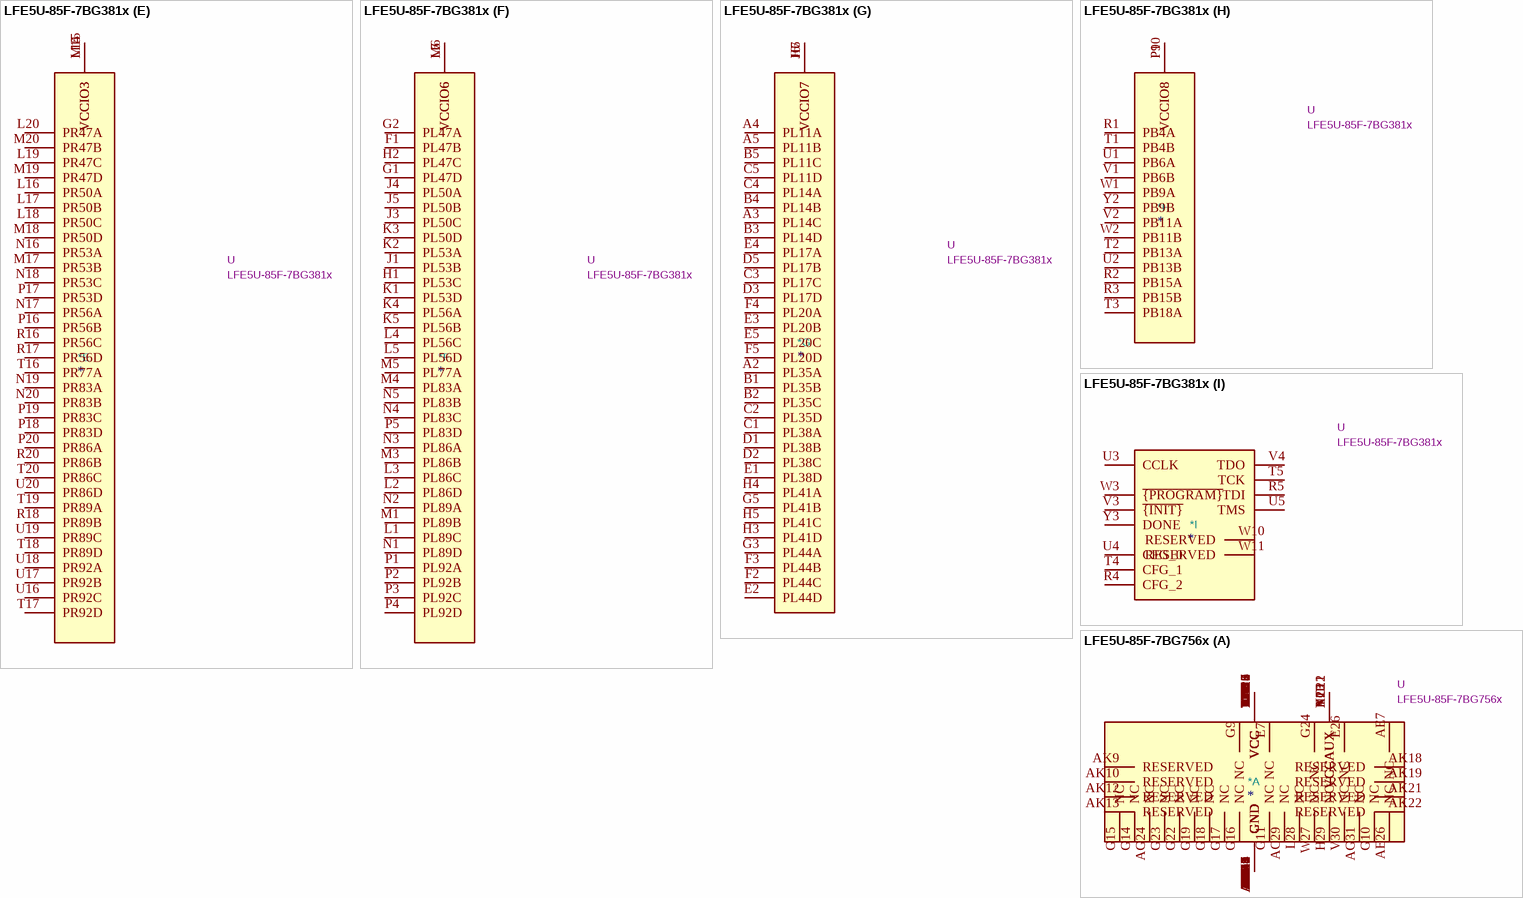
[diagram p5: symbols LFE5U-85F-7BG381x to LFE5U-85F-7BG756x]

## LFE5U-85F-7BG381x
designator *  value LFE5U-85F-7BG381x  Reference: U
ECP5 FPGA, 84K LUTs, 1.2V, BGA-381; ki_keywords: FPGA programmable logic; ki_fp_filters: Lattice?caBGA*17x17mm*Layout20x20*P0.8mm*; Footprint: Package_BGA:Lattice_caBGA-381_17x17mm_Layout20x20_P0.8mm; Datasheet: https://www.latticesemi.com/view_document?document_id=50461; Description_: ECP5 FPGA, 84K LUTs, 1.2V, BGA-381
part A pins: B7 GND, B14 GND, C19 GND, D4 GND, F6 VCCAUX, F7 GND, F8 GND, F13 GND, F14 GND, F15 VCCAUX, G4 GND, G6 GND, G7 GND, G8 GND, G9 GND, G10 GND, G11 GND, G12 GND, G13 GND, G14 GND, G15 GND, G17 GND, H8 VCC, H9 VCC, H10 VCC, H11 VCC, H12 VCC, H13 VCC, H19 GND, J2 GND, J7 GND, J8 VCC, J9 GND, J10 GND, J11 GND, J12 GND, J13 VCC, J14 GND, K6 GND, K7 GND, K8 VCC, K9 GND, K10 GND, K11 GND, K12 GND, K13 VCC, K14 GND, K15 GND, L8 VCC, L9 GND, L10 GND, L11 GND, L12 GND, L13 VCC, M2 GND, M7 GND, M8 VCC, M9 GND, M10 GND, M11 GND, M12 GND, M13 VCC, M14 GND, M16 GND, N6 GND, N7 GND, N8 VCC, N9 VCC, N10 VCC, N11 VCC, N12 VCC, N13 VCC, N14 GND, N15 GND, P6 VCCAUX, P7 GND, P8 GND, P11 GND, P12 GND, P13 GND, P14 GND, P15 VCCAUX, R19 GND, T6 GND, T7 GND, T8 GND, T9 GND, T10 GND, T11 GND, T12 GND, T13 GND, T14 GND, T15 GND, U6 GND, U7 GND, U8 GND, U9 GND, U10 GND, U11 GND, U12 GND, U13 GND, U14 GND, U15 GND, V5 GND, V6 GND, V7 GND, V8 GND, V9 GND, V10 GND, V11 GND, V12 GND, V13 GND, V14 GND, V15 GND, V16 GND, V17 GND, V18 GND, V19 GND, V20 GND, W4 RESERVED, W5 RESERVED, W6 GND, W7 GND, W8 RESERVED, W9 RESERVED, W12 GND, W13 RESERVED, W14 RESERVED, W15 GND, W16 GND, W17 RESERVED, W18 RESERVED, W19 GND, W20 GND, Y5 GND, Y6 GND, Y7 GND, Y8 GND, Y11 GND, Y12 GND, Y14 GND, Y15 GND, Y16 GND, Y17 GND, Y19 GND
part B pins: A6 PT4A, A7 PT18A, A8 PT18B, A9 PT60A, A10 PT63A, A11 PT63B, B6 PT4B, B8 PT15B, B9 PT58A, B10 PT60B, B11 PT65A, C6 PT11A, C7 PT11B, C8 PT15A, C9 PT54A, C10 PT58B, C11 PT65B, D6 PT6B, D7 PT9B, D8 PT13B, D9 PT20A, D10 PT56A, E6 PT6A, E7 PT9A, E8 PT13A, E9 PT20B, E10 PT56B, F9 VCCIO0, F10 VCCIO0
part C pins: A12 PT76A, A13 PT76B, A14 PT83A, A15 PT103A, A16 PT110A, A17 PT116A, A18 PT119A, A19 PT121A, B12 PT71A, B13 PT78A, B15 PT105A, B16 PT110B, B17 PT114A, B18 PT116B, B19 PT119B, B20 PT121B, C12 PT71B, C13 PT78B, C14 PT83B, C15 PT105B, C16 PT112A, C17 PT114B, D11 PT69A, D12 PT74A, D13 PT80A, D14 PT85A, D15 PT107A, D16 PT112B, E11 PT69B, E12 PT74B, E13 PT80B, E14 PT85B, E15 PT107B, F11 VCCIO1, F12 VCCIO1
part D pins: C18 PR11A, C20 PR35A, D17 PR11B, D18 PR14A, D19 PR35B, D20 PR35C, E16 PR11C, E17 PR14B, E18 PR14C, E19 PR35D, E20 PR38A, F16 PR11D, F17 PR17A, F18 PR14D, F19 PR38B, F20 PR38C, G16 PR17C, G18 PR17B, G19 PR41A, G20 PR38D, H14 VCCIO2, H15 VCCIO2, H16 PR17D, H17 PR20B, H18 PR20A, H20 PR41B, J15 VCCIO2, J16 PR20D, J17 PR20C, J18 PR41C, J19 PR44A, J20 PR44C, K16 PR29A, K17 PR29B, K18 PR41D, K19 PR44B, K20 PR44D
part E pins: L14 VCCIO3, L15 VCCIO3, L16 PR50A, L17 PR50B, L18 PR50C, L19 PR47C, L20 PR47A, M15 VCCIO3, M17 PR53B, M18 PR50D, M19 PR47D, M20 PR47B, N16 PR53A, N17 PR56A, N18 PR53C, N19 PR83A, N20 PR83B, P16 PR56B, P17 PR53D, P18 PR83D, P19 PR83C, P20 PR86A, R16 PR56C, R17 PR56D, R18 PR89B, R20 PR86B, T16 PR77A, T17 PR92D, T18 PR89D, T19 PR89A, T20 PR86C, U16 PR92C, U17 PR92B, U18 PR92A, U19 PR89C, U20 PR86D
part F pins: F1 PL47B, G1 PL47D, G2 PL47A, H1 PL53C, H2 PL47C, J1 PL53B, J3 PL50C, J4 PL50A, J5 PL50B, K1 PL53D, K2 PL53A, K3 PL50D, K4 PL56A, K5 PL56B, L1 PL89C, L2 PL86D, L3 PL86C, L4 PL56C, L5 PL56D, L6 VCCIO6, L7 VCCIO6, M1 PL89B, M3 PL86B, M4 PL83A, M5 PL77A, M6 VCCIO6, N1 PL89D, N2 PL89A, N3 PL86A, N4 PL83C, N5 PL83B, P1 PL92A, P2 PL92B, P3 PL92C, P4 PL92D, P5 PL83D
part G pins: A2 PL35A, A3 PL14C, A4 PL11A, A5 PL11B, B1 PL35B, B2 PL35C, B3 PL14D, B4 PL14B, B5 PL11C, C1 PL38A, C2 PL35D, C3 PL17C, C4 PL14A, C5 PL11D, D1 PL38B, D2 PL38C, D3 PL17D, D5 PL17B, E1 PL38D, E2 PL44D, E3 PL20B, E4 PL17A, E5 PL20C, F2 PL44C, F3 PL44B, F4 PL20A, F5 PL20D, G3 PL44A, G5 PL41B, H3 PL41D, H4 PL41A, H5 PL41C, H6 VCCIO7, H7 VCCIO7, J6 VCCIO7
part H pins: P9 VCCIO8, P10 VCCIO8, R1 PB4A, R2 PB15A, R3 PB15B, T1 PB4B, T2 PB13A, T3 PB18A, U1 PB6A, U2 PB13B, V1 PB6B, V2 PB11A, W1 PB9A, W2 PB11B, Y2 PB9B
part I pins: R4 CFG_2, R5 TDI, T4 CFG_1, T5 TCK, U3 CCLK, U4 CFG_0, U5 TMS, V3 ~{{INIT}}, V4 TDO, W3 ~{{PROGRAM}}, W10 RESERVED, W11 RESERVED, Y3 DONE

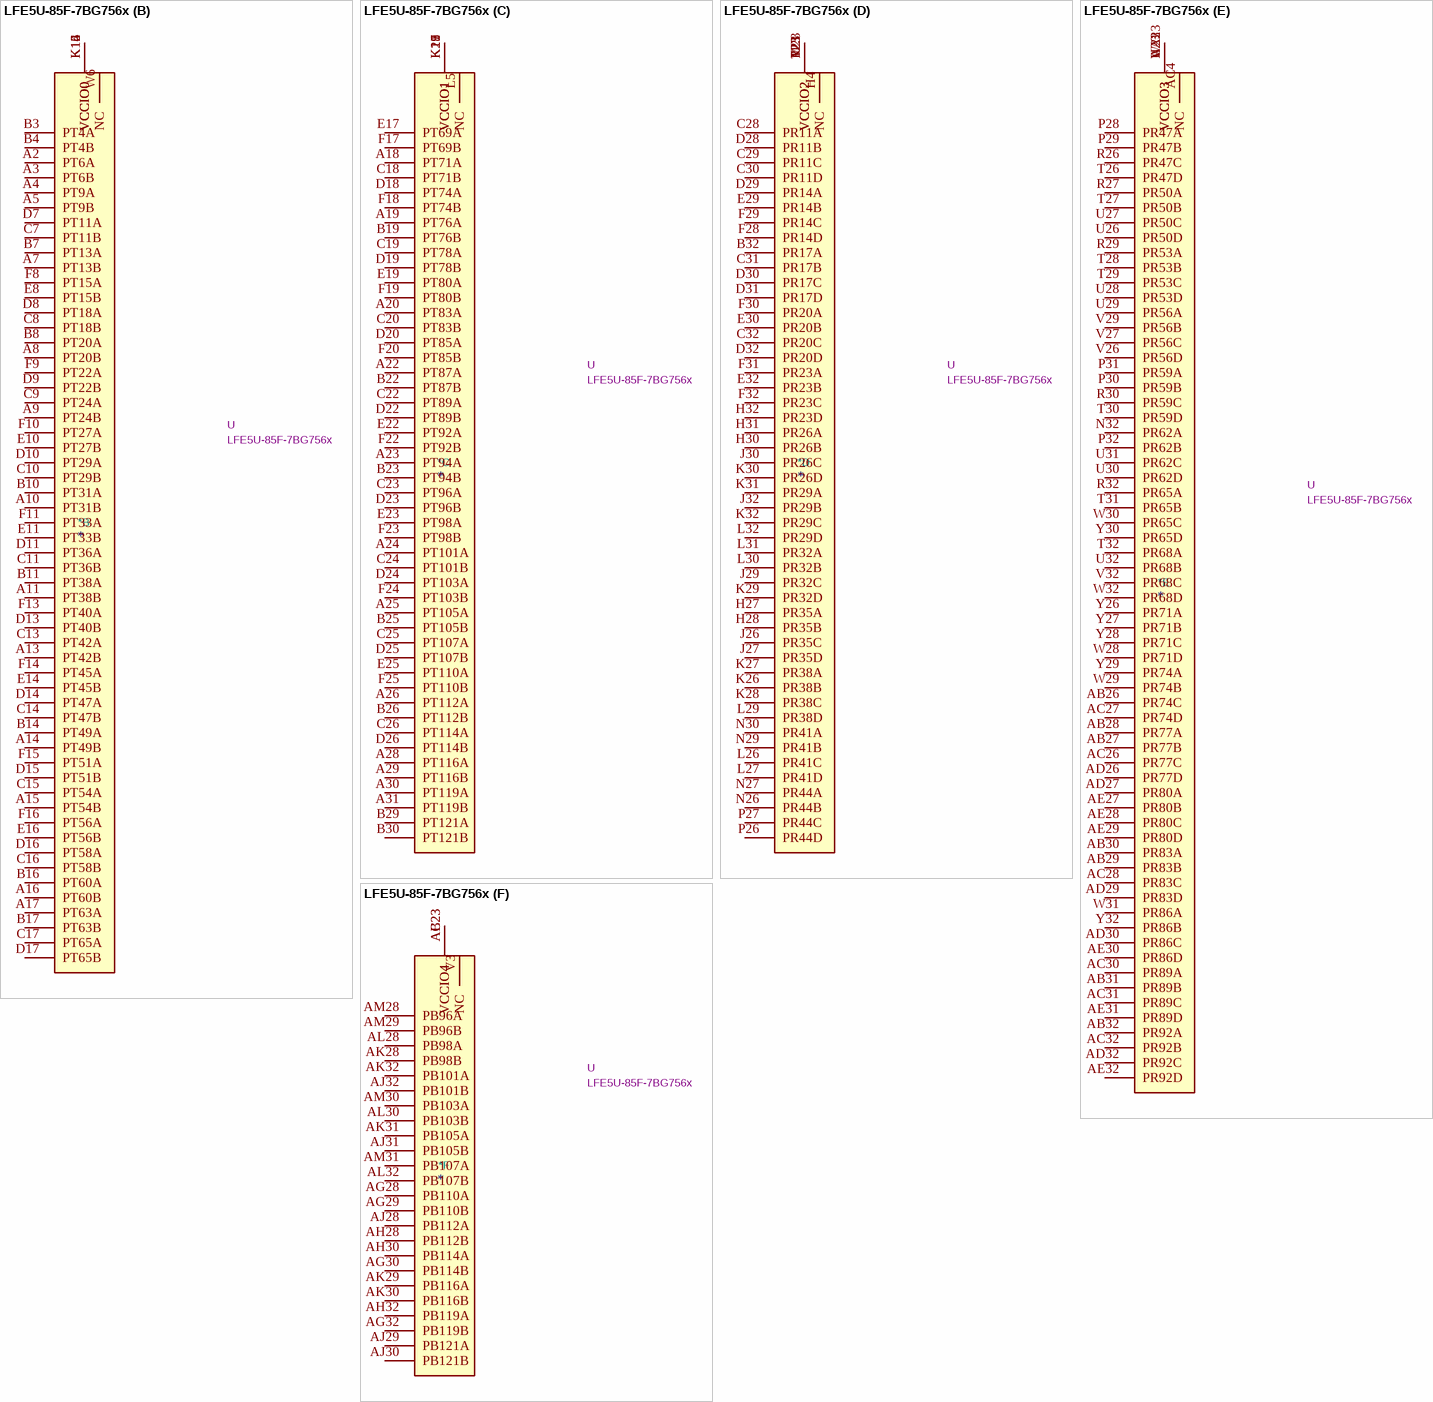
[diagram p6: symbol LFE5U-85F-7BG756x]

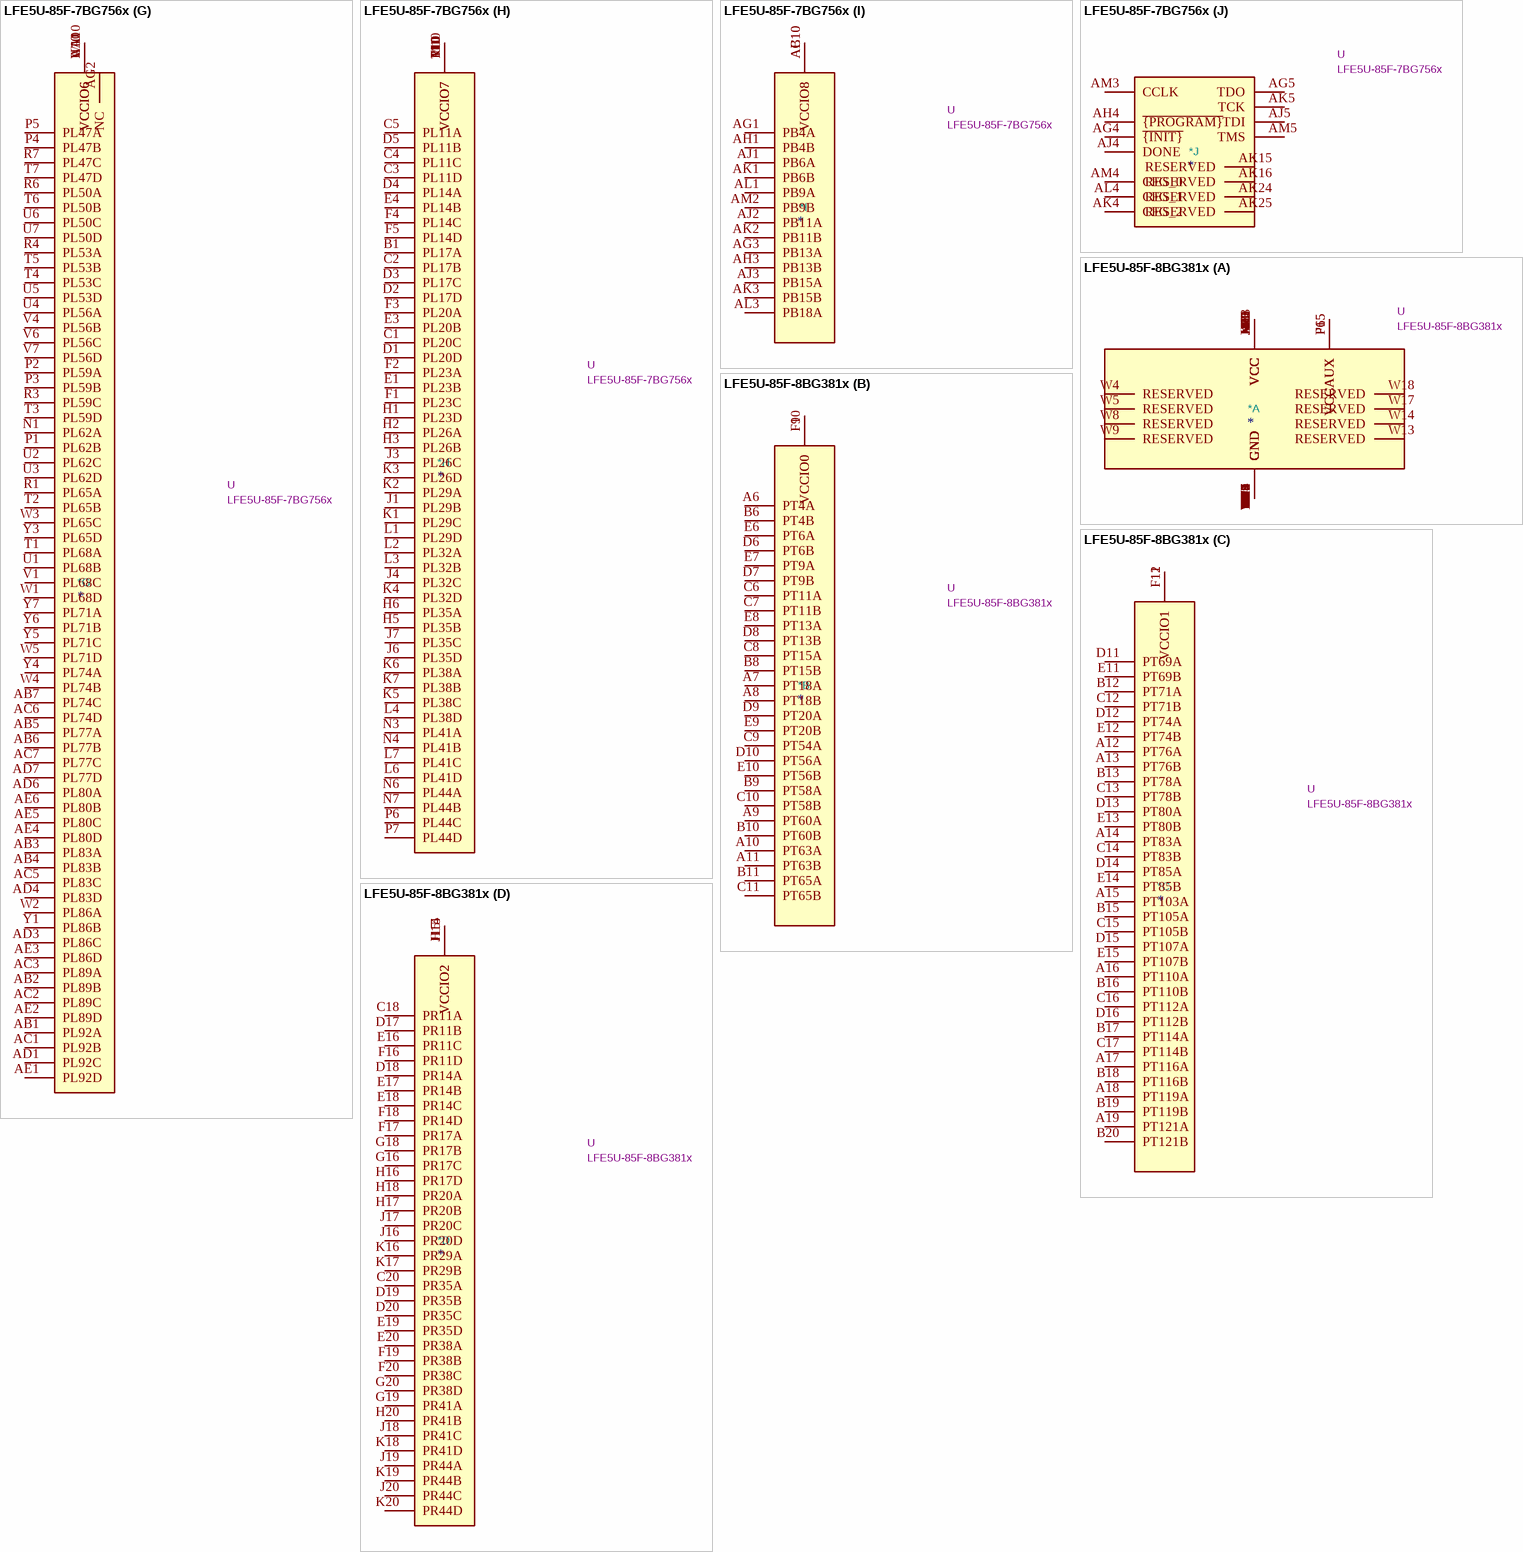
[diagram p7: symbols LFE5U-85F-7BG756x to LFE5U-85F-8BG381x]

## LFE5U-85F-7BG756x
designator *  value LFE5U-85F-7BG756x  Reference: U
ECP5 FPGA, 84K LUTs, 1.2V, BGA-756; ki_keywords: FPGA programmable logic; ki_fp_filters: Lattice*caBGA*27x27mm*Layout32x32*P0.8mm*; Footprint: Package_BGA:Lattice_caBGA-756_27x27mm_Layout32x32_P0.8mm; Datasheet: https://www.latticesemi.com/view_document?document_id=50461; Description_: ECP5 FPGA, 84K LUTs, 1.2V, BGA-756
part A pins: AA11 GND, AA12 VCC, AA13 VCC, AA14 VCC, AA15 VCC, AA16 VCC, AA17 VCC, AA18 VCC, AA19 VCC, AA20 VCC, AA21 VCC, AA22 GND, AB11 GND, AB12 GND, AB13 GND, AB14 GND, AB15 GND, AB16 GND, AB17 GND, AB18 GND, AB19 GND, AB20 GND, AB21 GND, AB22 GND, AC11 VCCAUX, AC12 GND, AC13 GND, AC14 GND, AC15 GND, AC16 GND, AC17 GND, AC18 GND, AC19 GND, AC20 GND, AC21 GND, AC22 VCCAUX, AC29 NC, AD2 GND, AD5 GND, AD28 GND, AD31 GND, AE7 NC, AE26 NC, AF11 GND, AF12 GND, AF14 GND, AF15 GND, AF16 GND, AF17 GND, AF19 GND, AF20 GND, AF22 GND, AF23 GND, AG9 GND, AG11 GND, AG12 GND, AG14 GND, AG15 GND, AG16 GND, AG17 GND, AG19 GND, AG20 GND, AG22 GND, AG23 GND, AG24 NC, AG31 NC, AH2 GND, AH5 GND, AH7 GND, AH8 GND, AH9 GND, AH11 GND, AH12 GND, AH14 GND, AH15 GND, AH16 GND, AH17 GND, AH19 GND, AH20 GND, AH22 GND, AH23 GND, AH24 GND, AH25 GND, AH26 GND, AH29 GND, AH31 GND, AJ7 GND, AJ8 GND, AJ9 GND, AJ10 GND, AJ11 GND, AJ12 GND, AJ13 GND, AJ14 GND, AJ15 GND, AJ16 GND, AJ17 GND, AJ18 GND, AJ19 GND, AJ20 GND, AJ21 GND, AJ22 GND, AJ23 GND, AJ24 GND, AJ25 GND, AJ26 GND, AK7 GND, AK8 GND, AK9 RESERVED, AK10 RESERVED, AK11 GND, AK12 RESERVED, AK13 RESERVED, AK14 GND, AK17 GND, AK18 RESERVED, AK19 RESERVED, AK20 GND, AK21 RESERVED, AK22 RESERVED, AK23 GND, AK26 GND, AL2 GND, AL5 GND, AL7 GND, AL8 GND, AL9 GND, AL11 GND, AL12 GND, AL14 GND, AL15 GND, AL17 GND, AL18 GND, AL20 GND, AL21 GND, AL23 GND, AL24 GND, AL26 GND, AL29 GND, AL31 GND, AM7 GND, AM8 GND, AM9 GND, AM11 GND, AM12 GND, AM14 GND, AM15 GND, AM17 GND, AM18 GND, AM20 GND, AM21 GND, AM23 GND, AM24 GND, AM26 GND, B2 GND, B5 GND, B9 GND, B13 GND, B15 GND, B18 GND, B20 GND, B24 GND, B28 GND, B31 GND, E2 GND, E5 GND, E7 NC, E9 GND, E13 GND, E15 GND, E18 GND, E20 GND, E24 GND, E26 NC, E28 GND, E31 GND, G9 NC, G10 NC, G11 NC, G14 NC, G15 NC, G16 NC, G17 NC, G18 NC, G19 NC, G22 NC, G23 NC, G24 NC, H29 NC, J2 GND, J5 GND, J28 GND, J31 GND, K10 GND, K11 GND, K13 VCCAUX, K20 VCCAUX, K22 GND, K23 GND, L10 GND, L11 GND, L12 GND, L13 GND, L14 GND, L15 GND, L16 GND, L17 GND, L18 GND, L19 GND, L20 GND, L21 GND, L22 GND, L23 GND, L28 NC, M11 GND, M12 VCC, M13 VCC, M14 VCC, M15 VCC, M16 VCC, M17 VCC, M18 VCC, M19 VCC, M20 VCC, M21 VCC, M22 GND, N2 GND, N5 GND, N10 VCCAUX, N11 GND, N12 VCC, N13 GND, N14 GND, N15 GND, N16 GND, N17 GND, N18 GND, N19 GND, N20 GND, N21 VCC, N22 GND, N23 VCCAUX, N28 GND, N31 GND, P11 GND, P12 VCC, P13 GND, P14 GND, P15 GND, P16 GND, P17 GND, P18 GND, P19 GND, P20 GND, P21 VCC, P22 GND, R2 GND, R5 GND, R11 GND, R12 VCC, R13 GND, R14 GND, R15 GND, R16 GND, R17 GND, R18 GND, R19 GND, R20 GND, R21 VCC, R22 GND, R28 GND, R31 GND, T11 GND, T12 VCC, T13 GND, T14 GND, T15 GND, T16 GND, T17 GND, T18 GND, T19 GND, T20 GND, T21 VCC, T22 GND, U11 GND, U12 VCC, U13 GND, U14 GND, U15 GND, U16 GND, U17 GND, U18 GND, U19 GND, U20 GND, U21 VCC, U22 GND, V2 GND, V5 GND, V11 GND, V12 VCC, V13 GND, V14 GND, V15 GND, V16 GND, V17 GND, V18 GND, V19 GND, V20 GND, V21 VCC, V22 GND, V28 GND, V30 NC, V31 GND, W11 GND, W12 VCC, W13 GND, W14 GND, W15 GND, W16 GND, W17 GND, W18 GND, W19 GND, W20 GND, W21 VCC, W22 GND, W27 NC, Y2 GND, Y10 VCCAUX, Y11 GND, Y12 VCC, Y13 GND, Y14 GND, Y15 GND, Y16 GND, Y17 GND, Y18 GND, Y19 GND, Y20 GND, Y21 VCC, Y22 GND, Y23 VCCAUX, Y31 GND
part B pins: A2 PT6A, A3 PT6B, A4 PT9A, A5 PT9B, A7 PT13B, A8 PT20B, A9 PT24B, A10 PT31B, A11 PT38B, A13 PT42B, A14 PT49B, A15 PT54B, A16 PT60B, A17 PT63A, B3 PT4A, B4 PT4B, B7 PT13A, B8 PT20A, B10 PT31A, B11 PT38A, B14 PT49A, B16 PT60A, B17 PT63B, C7 PT11B, C8 PT18B, C9 PT24A, C10 PT29B, C11 PT36B, C13 PT42A, C14 PT47B, C15 PT54A, C16 PT58B, C17 PT65A, D7 PT11A, D8 PT18A, D9 PT22B, D10 PT29A, D11 PT36A, D13 PT40B, D14 PT47A, D15 PT51B, D16 PT58A, D17 PT65B, E8 PT15B, E10 PT27B, E11 PT33B, E14 PT45B, E16 PT56B, F8 PT15A, F9 PT22A, F10 PT27A, F11 PT33A, F13 PT40A, F14 PT45A, F15 PT51A, F16 PT56A, K12 VCCIO0, K14 VCCIO0, K15 VCCIO0, K16 VCCIO0, W6 NC
part C pins: A18 PT71A, A19 PT76A, A20 PT83A, A22 PT87A, A23 PT94A, A24 PT101A, A25 PT105A, A26 PT112A, A28 PT116A, A29 PT116B, A30 PT119A, A31 PT119B, B19 PT76B, B22 PT87B, B23 PT94B, B25 PT105B, B26 PT112B, B29 PT121A, B30 PT121B, C18 PT71B, C19 PT78A, C20 PT83B, C22 PT89A, C23 PT96A, C24 PT101B, C25 PT107A, C26 PT114A, D18 PT74A, D19 PT78B, D20 PT85A, D22 PT89B, D23 PT96B, D24 PT103A, D25 PT107B, D26 PT114B, E17 PT69A, E19 PT80A, E22 PT92A, E23 PT98A, E25 PT110A, F17 PT69B, F18 PT74B, F19 PT80B, F20 PT85B, F22 PT92B, F23 PT98B, F24 PT103B, F25 PT110B, K17 VCCIO1, K18 VCCIO1, K19 VCCIO1, K21 VCCIO1, L5 NC
part D pins: B32 PR17A, C28 PR11A, C29 PR11C, C30 PR11D, C31 PR17B, C32 PR20C, D28 PR11B, D29 PR14A, D30 PR17C, D31 PR17D, D32 PR20D, E29 PR14B, E30 PR20B, E32 PR23B, F28 PR14D, F29 PR14C, F30 PR20A, F31 PR23A, F32 PR23C, H4 NC, H27 PR35A, H28 PR35B, H30 PR26B, H31 PR26A, H32 PR23D, J26 PR35C, J27 PR35D, J29 PR32C, J30 PR26C, J32 PR29B, K26 PR38B, K27 PR38A, K28 PR38C, K29 PR32D, K30 PR26D, K31 PR29A, K32 PR29C, L26 PR41C, L27 PR41D, L29 PR38D, L30 PR32B, L31 PR32A, L32 PR29D, M23 VCCIO2, N26 PR44B, N27 PR44A, N29 PR41B, N30 PR41A, P23 VCCIO2, P26 PR44D, P27 PR44C, R23 VCCIO2, T23 VCCIO2
part E pins: AA23 VCCIO3, AB26 PR74C, AB27 PR77B, AB28 PR77A, AB29 PR83B, AB30 PR83A, AB31 PR89B, AB32 PR92A, AC4 NC, AC26 PR77C, AC27 PR74D, AC28 PR83C, AC30 PR89A, AC31 PR89C, AC32 PR92B, AD26 PR77D, AD27 PR80A, AD29 PR83D, AD30 PR86C, AD32 PR92C, AE27 PR80B, AE28 PR80C, AE29 PR80D, AE30 PR86D, AE31 PR89D, AE32 PR92D, N32 PR62A, P28 PR47A, P29 PR47B, P30 PR59B, P31 PR59A, P32 PR62B, R26 PR47C, R27 PR50A, R29 PR53A, R30 PR59C, R32 PR65A, T26 PR47D, T27 PR50B, T28 PR53B, T29 PR53C, T30 PR59D, T31 PR65B, T32 PR68A, U23 VCCIO3, U26 PR50D, U27 PR50C, U28 PR53D, U29 PR56A, U30 PR62D, U31 PR62C, U32 PR68B, V23 VCCIO3, V26 PR56D, V27 PR56C, V29 PR56B, V32 PR68C, W23 VCCIO3, W28 PR71D, W29 PR74B, W30 PR65C, W31 PR86A, W32 PR68D, Y26 PR71A, Y27 PR71B, Y28 PR71C, Y29 PR74A, Y30 PR65D, Y32 PR86B
part F pins: AB23 VCCIO4, AC23 VCCIO4, AG28 PB110A, AG29 PB110B, AG30 PB114B, AG32 PB119B, AH28 PB112B, AH30 PB114A, AH32 PB119A, AJ28 PB112A, AJ29 PB121A, AJ30 PB121B, AJ31 PB105B, AJ32 PB101B, AK28 PB98B, AK29 PB116A, AK30 PB116B, AK31 PB105A, AK32 PB101A, AL28 PB98A, AL30 PB103B, AL32 PB107B, AM28 PB96A, AM29 PB96B, AM30 PB103A, AM31 PB107A, V3 NC
part G pins: AA10 VCCIO6, AB1 PL92A, AB2 PL89B, AB3 PL83A, AB4 PL83B, AB5 PL77A, AB6 PL77B, AB7 PL74C, AC1 PL92B, AC2 PL89C, AC3 PL89A, AC5 PL83C, AC6 PL74D, AC7 PL77C, AD1 PL92C, AD3 PL86C, AD4 PL83D, AD6 PL80A, AD7 PL77D, AE1 PL92D, AE2 PL89D, AE3 PL86D, AE4 PL80D, AE5 PL80C, AE6 PL80B, AG2 NC, N1 PL62A, P1 PL62B, P2 PL59A, P3 PL59B, P4 PL47B, P5 PL47A, R1 PL65A, R3 PL59C, R4 PL53A, R6 PL50A, R7 PL47C, T1 PL68A, T2 PL65B, T3 PL59D, T4 PL53C, T5 PL53B, T6 PL50B, T7 PL47D, U1 PL68B, U2 PL62C, U3 PL62D, U4 PL56A, U5 PL53D, U6 PL50C, U7 PL50D, U10 VCCIO6, V1 PL68C, V4 PL56B, V6 PL56C, V7 PL56D, V10 VCCIO6, W1 PL68D, W2 PL86A, W3 PL65C, W4 PL74B, W5 PL71D, W10 VCCIO6, Y1 PL86B, Y3 PL65D, Y4 PL74A, Y5 PL71C, Y6 PL71B, Y7 PL71A
part H pins: B1 PL17A, C1 PL20C, C2 PL17B, C3 PL11D, C4 PL11C, C5 PL11A, D1 PL20D, D2 PL17D, D3 PL17C, D4 PL14A, D5 PL11B, E1 PL23B, E3 PL20B, E4 PL14B, F1 PL23C, F2 PL23A, F3 PL20A, F4 PL14C, F5 PL14D, H1 PL23D, H2 PL26A, H3 PL26B, H5 PL35B, H6 PL35A, J1 PL29B, J3 PL26C, J4 PL32C, J6 PL35D, J7 PL35C, K1 PL29C, K2 PL29A, K3 PL26D, K4 PL32D, K5 PL38C, K6 PL38A, K7 PL38B, L1 PL29D, L2 PL32A, L3 PL32B, L4 PL38D, L6 PL41D, L7 PL41C, M10 VCCIO7, N3 PL41A, N4 PL41B, N6 PL44A, N7 PL44B, P6 PL44C, P7 PL44D, P10 VCCIO7, R10 VCCIO7, T10 VCCIO7
part I pins: AB10 VCCIO8, AC10 VCCIO8, AG1 PB4A, AG3 PB13A, AH1 PB4B, AH3 PB13B, AJ1 PB6A, AJ2 PB11A, AJ3 PB15A, AK1 PB6B, AK2 PB11B, AK3 PB15B, AL1 PB9A, AL3 PB18A, AM2 PB9B
part J pins: AG4 ~{{INIT}}, AG5 TDO, AH4 ~{{PROGRAM}}, AJ4 DONE, AJ5 TDI, AK4 CFG_2, AK5 TCK, AK15 RESERVED, AK16 RESERVED, AK24 RESERVED, AK25 RESERVED, AL4 CFG_1, AM3 CCLK, AM4 CFG_0, AM5 TMS

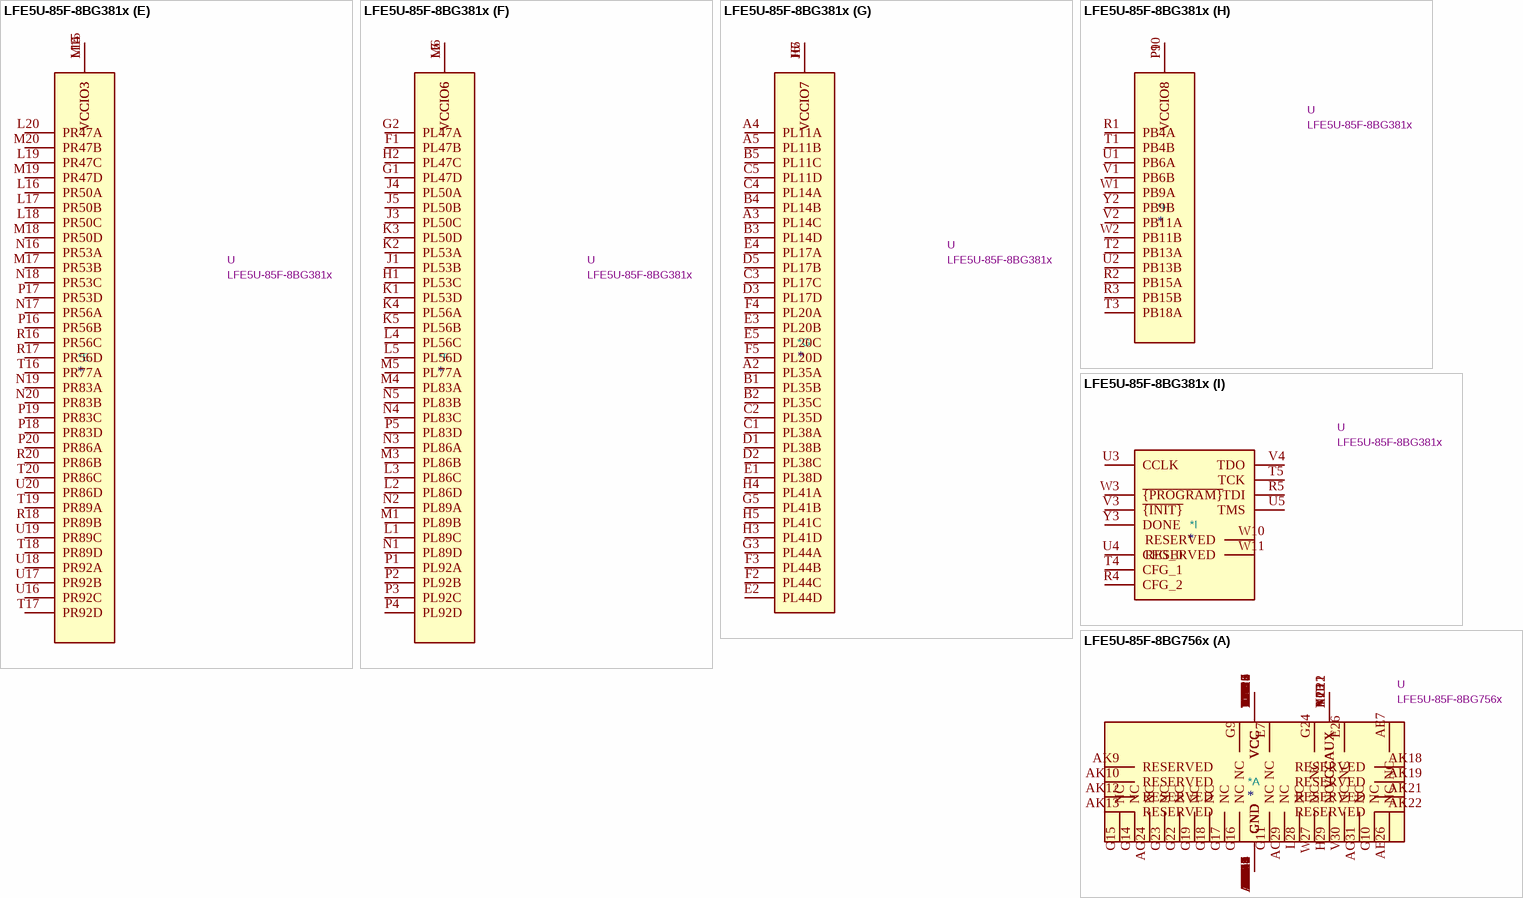
[diagram p8: symbols LFE5U-85F-8BG381x to LFE5U-85F-8BG756x]

## LFE5U-85F-8BG381x
designator *  value LFE5U-85F-8BG381x  Reference: U
ECP5 FPGA, 84K LUTs, 1.2V, BGA-381; ki_keywords: FPGA programmable logic; ki_fp_filters: Lattice?caBGA*17x17mm*Layout20x20*P0.8mm*; Footprint: Package_BGA:Lattice_caBGA-381_17x17mm_Layout20x20_P0.8mm; Datasheet: https://www.latticesemi.com/view_document?document_id=50461; Description_: ECP5 FPGA, 84K LUTs, 1.2V, BGA-381
part A pins: B7 GND, B14 GND, C19 GND, D4 GND, F6 VCCAUX, F7 GND, F8 GND, F13 GND, F14 GND, F15 VCCAUX, G4 GND, G6 GND, G7 GND, G8 GND, G9 GND, G10 GND, G11 GND, G12 GND, G13 GND, G14 GND, G15 GND, G17 GND, H8 VCC, H9 VCC, H10 VCC, H11 VCC, H12 VCC, H13 VCC, H19 GND, J2 GND, J7 GND, J8 VCC, J9 GND, J10 GND, J11 GND, J12 GND, J13 VCC, J14 GND, K6 GND, K7 GND, K8 VCC, K9 GND, K10 GND, K11 GND, K12 GND, K13 VCC, K14 GND, K15 GND, L8 VCC, L9 GND, L10 GND, L11 GND, L12 GND, L13 VCC, M2 GND, M7 GND, M8 VCC, M9 GND, M10 GND, M11 GND, M12 GND, M13 VCC, M14 GND, M16 GND, N6 GND, N7 GND, N8 VCC, N9 VCC, N10 VCC, N11 VCC, N12 VCC, N13 VCC, N14 GND, N15 GND, P6 VCCAUX, P7 GND, P8 GND, P11 GND, P12 GND, P13 GND, P14 GND, P15 VCCAUX, R19 GND, T6 GND, T7 GND, T8 GND, T9 GND, T10 GND, T11 GND, T12 GND, T13 GND, T14 GND, T15 GND, U6 GND, U7 GND, U8 GND, U9 GND, U10 GND, U11 GND, U12 GND, U13 GND, U14 GND, U15 GND, V5 GND, V6 GND, V7 GND, V8 GND, V9 GND, V10 GND, V11 GND, V12 GND, V13 GND, V14 GND, V15 GND, V16 GND, V17 GND, V18 GND, V19 GND, V20 GND, W4 RESERVED, W5 RESERVED, W6 GND, W7 GND, W8 RESERVED, W9 RESERVED, W12 GND, W13 RESERVED, W14 RESERVED, W15 GND, W16 GND, W17 RESERVED, W18 RESERVED, W19 GND, W20 GND, Y5 GND, Y6 GND, Y7 GND, Y8 GND, Y11 GND, Y12 GND, Y14 GND, Y15 GND, Y16 GND, Y17 GND, Y19 GND
part B pins: A6 PT4A, A7 PT18A, A8 PT18B, A9 PT60A, A10 PT63A, A11 PT63B, B6 PT4B, B8 PT15B, B9 PT58A, B10 PT60B, B11 PT65A, C6 PT11A, C7 PT11B, C8 PT15A, C9 PT54A, C10 PT58B, C11 PT65B, D6 PT6B, D7 PT9B, D8 PT13B, D9 PT20A, D10 PT56A, E6 PT6A, E7 PT9A, E8 PT13A, E9 PT20B, E10 PT56B, F9 VCCIO0, F10 VCCIO0
part C pins: A12 PT76A, A13 PT76B, A14 PT83A, A15 PT103A, A16 PT110A, A17 PT116A, A18 PT119A, A19 PT121A, B12 PT71A, B13 PT78A, B15 PT105A, B16 PT110B, B17 PT114A, B18 PT116B, B19 PT119B, B20 PT121B, C12 PT71B, C13 PT78B, C14 PT83B, C15 PT105B, C16 PT112A, C17 PT114B, D11 PT69A, D12 PT74A, D13 PT80A, D14 PT85A, D15 PT107A, D16 PT112B, E11 PT69B, E12 PT74B, E13 PT80B, E14 PT85B, E15 PT107B, F11 VCCIO1, F12 VCCIO1
part D pins: C18 PR11A, C20 PR35A, D17 PR11B, D18 PR14A, D19 PR35B, D20 PR35C, E16 PR11C, E17 PR14B, E18 PR14C, E19 PR35D, E20 PR38A, F16 PR11D, F17 PR17A, F18 PR14D, F19 PR38B, F20 PR38C, G16 PR17C, G18 PR17B, G19 PR41A, G20 PR38D, H14 VCCIO2, H15 VCCIO2, H16 PR17D, H17 PR20B, H18 PR20A, H20 PR41B, J15 VCCIO2, J16 PR20D, J17 PR20C, J18 PR41C, J19 PR44A, J20 PR44C, K16 PR29A, K17 PR29B, K18 PR41D, K19 PR44B, K20 PR44D
part E pins: L14 VCCIO3, L15 VCCIO3, L16 PR50A, L17 PR50B, L18 PR50C, L19 PR47C, L20 PR47A, M15 VCCIO3, M17 PR53B, M18 PR50D, M19 PR47D, M20 PR47B, N16 PR53A, N17 PR56A, N18 PR53C, N19 PR83A, N20 PR83B, P16 PR56B, P17 PR53D, P18 PR83D, P19 PR83C, P20 PR86A, R16 PR56C, R17 PR56D, R18 PR89B, R20 PR86B, T16 PR77A, T17 PR92D, T18 PR89D, T19 PR89A, T20 PR86C, U16 PR92C, U17 PR92B, U18 PR92A, U19 PR89C, U20 PR86D
part F pins: F1 PL47B, G1 PL47D, G2 PL47A, H1 PL53C, H2 PL47C, J1 PL53B, J3 PL50C, J4 PL50A, J5 PL50B, K1 PL53D, K2 PL53A, K3 PL50D, K4 PL56A, K5 PL56B, L1 PL89C, L2 PL86D, L3 PL86C, L4 PL56C, L5 PL56D, L6 VCCIO6, L7 VCCIO6, M1 PL89B, M3 PL86B, M4 PL83A, M5 PL77A, M6 VCCIO6, N1 PL89D, N2 PL89A, N3 PL86A, N4 PL83C, N5 PL83B, P1 PL92A, P2 PL92B, P3 PL92C, P4 PL92D, P5 PL83D
part G pins: A2 PL35A, A3 PL14C, A4 PL11A, A5 PL11B, B1 PL35B, B2 PL35C, B3 PL14D, B4 PL14B, B5 PL11C, C1 PL38A, C2 PL35D, C3 PL17C, C4 PL14A, C5 PL11D, D1 PL38B, D2 PL38C, D3 PL17D, D5 PL17B, E1 PL38D, E2 PL44D, E3 PL20B, E4 PL17A, E5 PL20C, F2 PL44C, F3 PL44B, F4 PL20A, F5 PL20D, G3 PL44A, G5 PL41B, H3 PL41D, H4 PL41A, H5 PL41C, H6 VCCIO7, H7 VCCIO7, J6 VCCIO7
part H pins: P9 VCCIO8, P10 VCCIO8, R1 PB4A, R2 PB15A, R3 PB15B, T1 PB4B, T2 PB13A, T3 PB18A, U1 PB6A, U2 PB13B, V1 PB6B, V2 PB11A, W1 PB9A, W2 PB11B, Y2 PB9B
part I pins: R4 CFG_2, R5 TDI, T4 CFG_1, T5 TCK, U3 CCLK, U4 CFG_0, U5 TMS, V3 ~{{INIT}}, V4 TDO, W3 ~{{PROGRAM}}, W10 RESERVED, W11 RESERVED, Y3 DONE

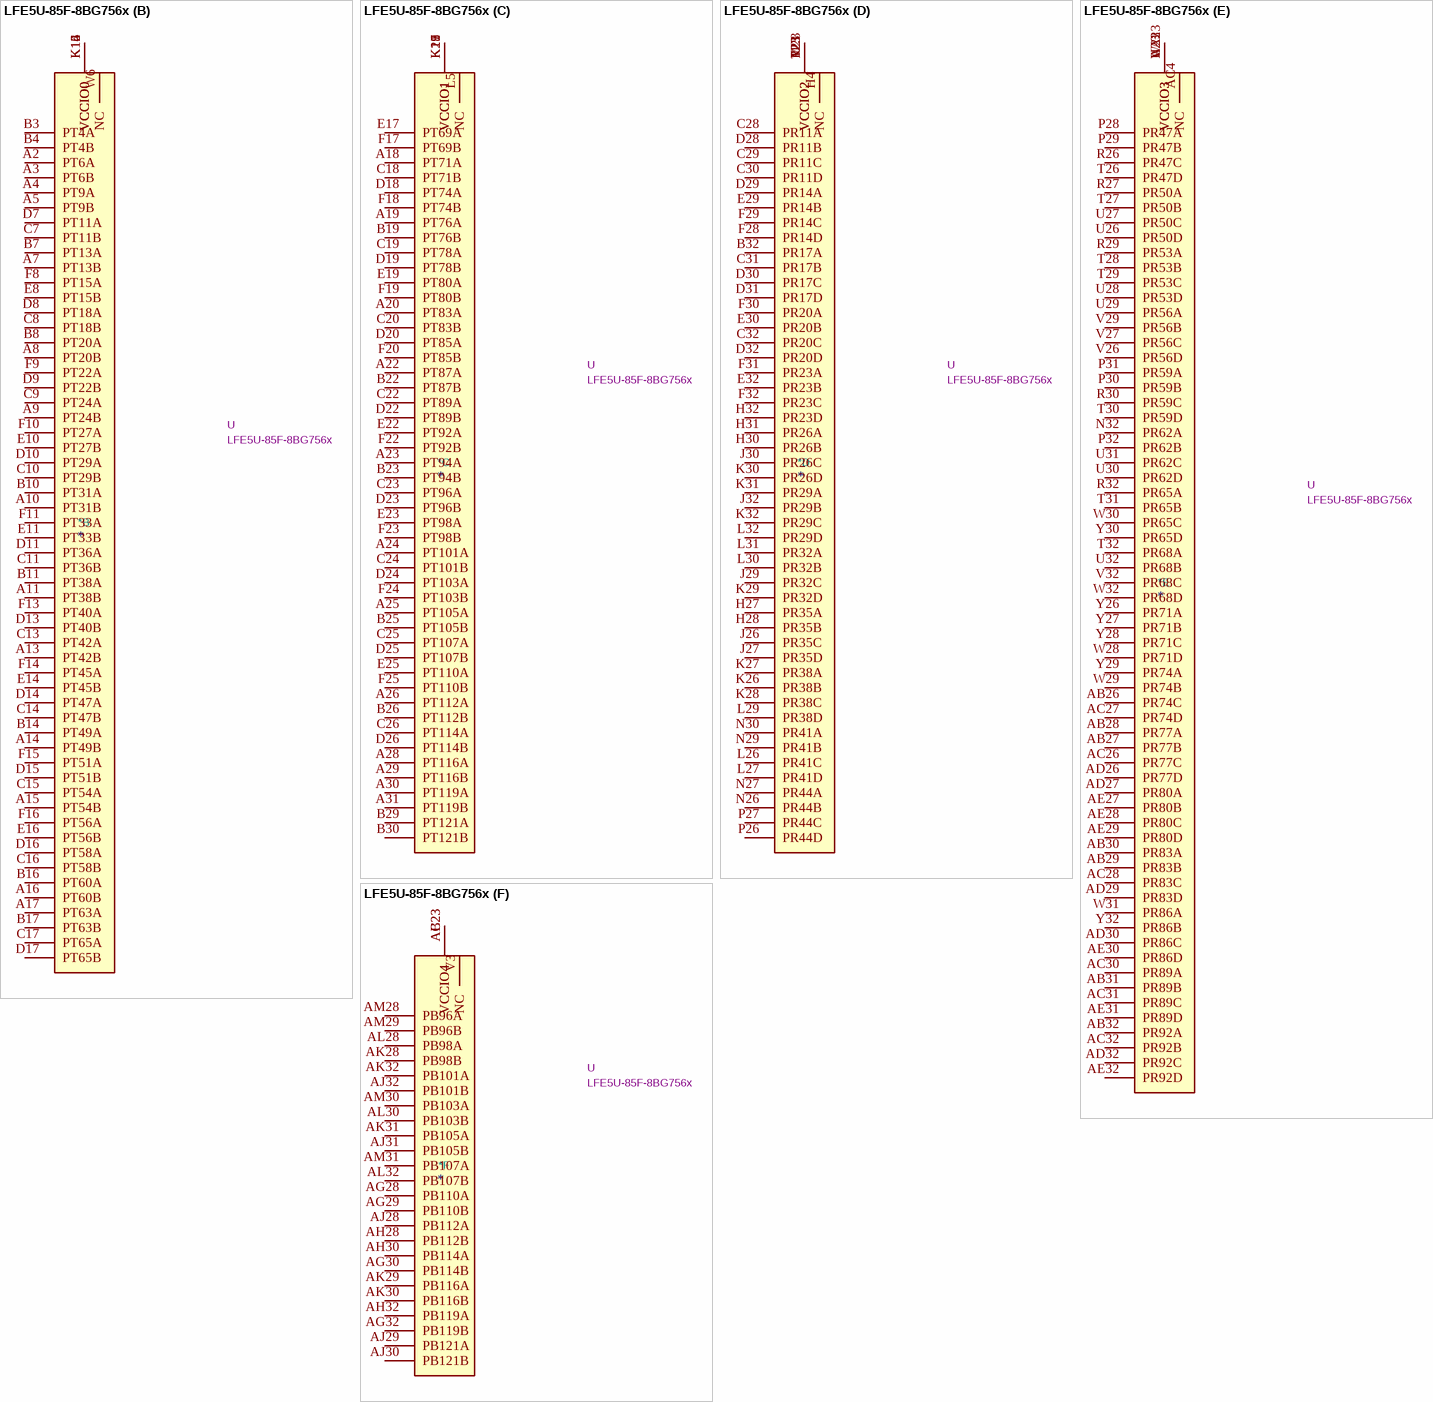
[diagram p9: symbol LFE5U-85F-8BG756x]

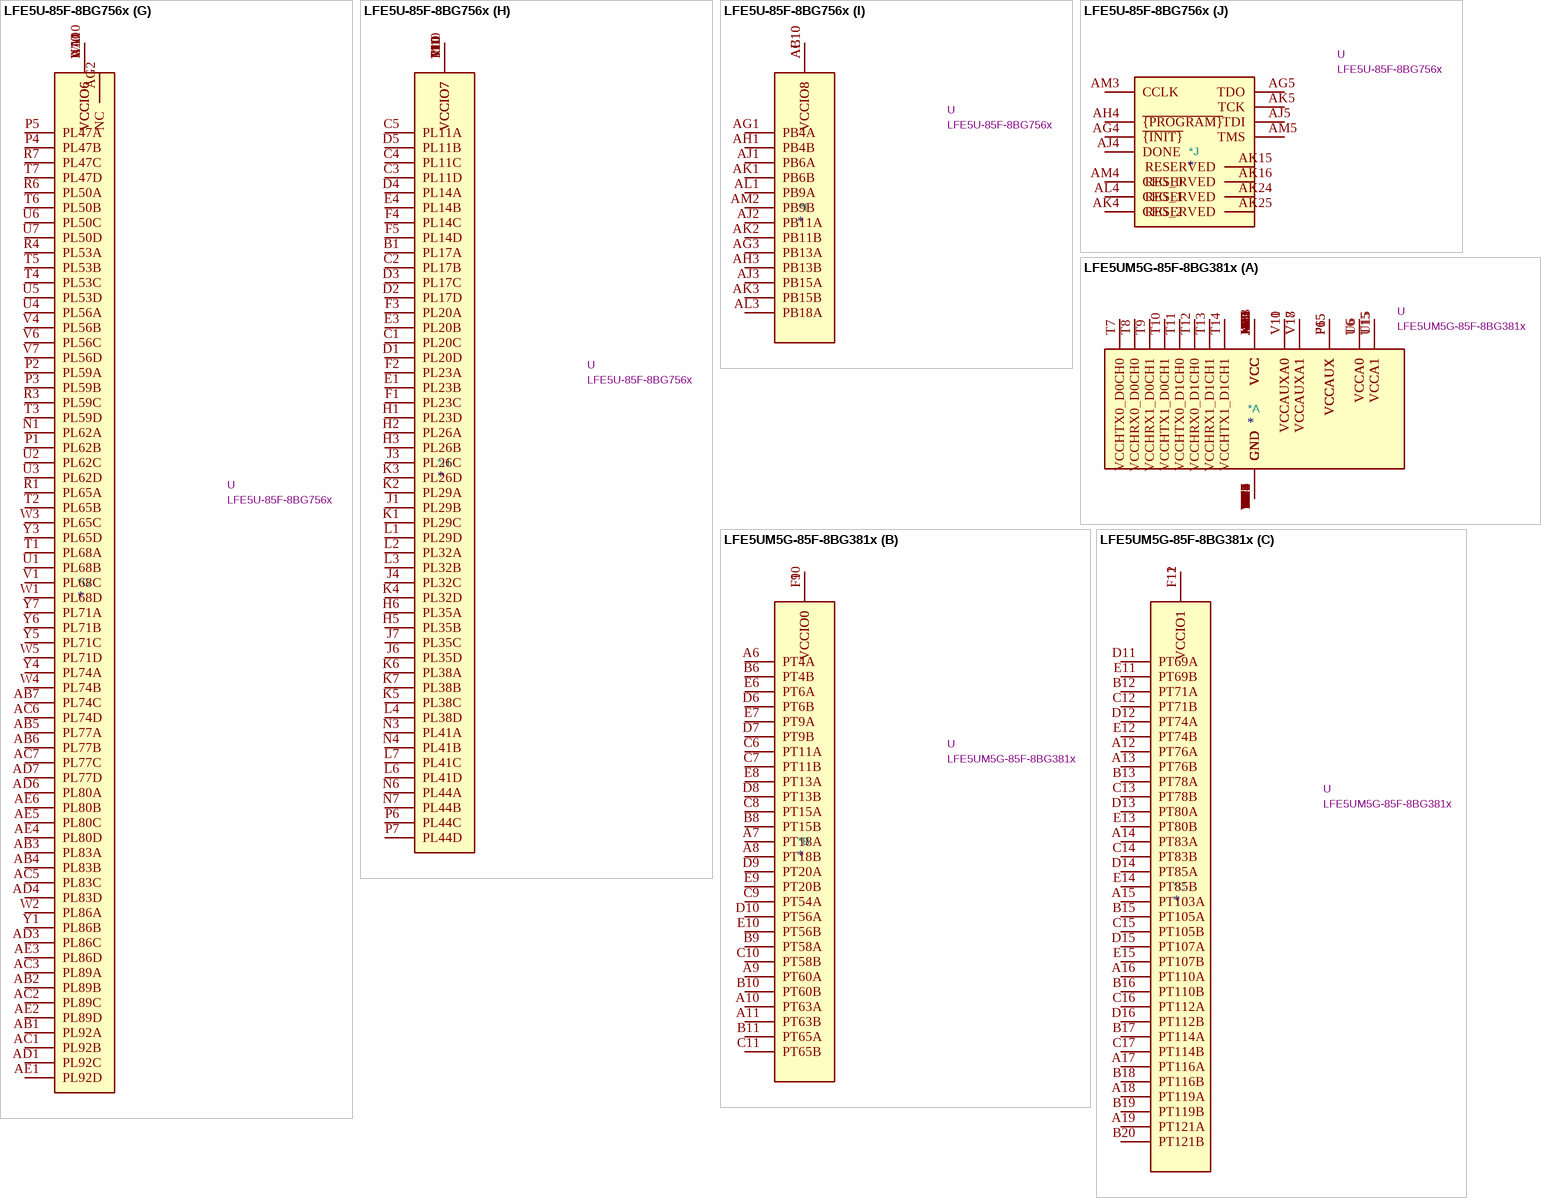
[diagram p10: symbols LFE5U-85F-8BG756x to LFE5UM5G-85F-8BG381x]

## LFE5U-85F-8BG756x
designator *  value LFE5U-85F-8BG756x  Reference: U
ECP5 FPGA, 84K LUTs, 1.2V, BGA-756; ki_keywords: FPGA programmable logic; ki_fp_filters: Lattice*caBGA*27x27mm*Layout32x32*P0.8mm*; Footprint: Package_BGA:Lattice_caBGA-756_27x27mm_Layout32x32_P0.8mm; Datasheet: https://www.latticesemi.com/view_document?document_id=50461; Description_: ECP5 FPGA, 84K LUTs, 1.2V, BGA-756
part A pins: AA11 GND, AA12 VCC, AA13 VCC, AA14 VCC, AA15 VCC, AA16 VCC, AA17 VCC, AA18 VCC, AA19 VCC, AA20 VCC, AA21 VCC, AA22 GND, AB11 GND, AB12 GND, AB13 GND, AB14 GND, AB15 GND, AB16 GND, AB17 GND, AB18 GND, AB19 GND, AB20 GND, AB21 GND, AB22 GND, AC11 VCCAUX, AC12 GND, AC13 GND, AC14 GND, AC15 GND, AC16 GND, AC17 GND, AC18 GND, AC19 GND, AC20 GND, AC21 GND, AC22 VCCAUX, AC29 NC, AD2 GND, AD5 GND, AD28 GND, AD31 GND, AE7 NC, AE26 NC, AF11 GND, AF12 GND, AF14 GND, AF15 GND, AF16 GND, AF17 GND, AF19 GND, AF20 GND, AF22 GND, AF23 GND, AG9 GND, AG11 GND, AG12 GND, AG14 GND, AG15 GND, AG16 GND, AG17 GND, AG19 GND, AG20 GND, AG22 GND, AG23 GND, AG24 NC, AG31 NC, AH2 GND, AH5 GND, AH7 GND, AH8 GND, AH9 GND, AH11 GND, AH12 GND, AH14 GND, AH15 GND, AH16 GND, AH17 GND, AH19 GND, AH20 GND, AH22 GND, AH23 GND, AH24 GND, AH25 GND, AH26 GND, AH29 GND, AH31 GND, AJ7 GND, AJ8 GND, AJ9 GND, AJ10 GND, AJ11 GND, AJ12 GND, AJ13 GND, AJ14 GND, AJ15 GND, AJ16 GND, AJ17 GND, AJ18 GND, AJ19 GND, AJ20 GND, AJ21 GND, AJ22 GND, AJ23 GND, AJ24 GND, AJ25 GND, AJ26 GND, AK7 GND, AK8 GND, AK9 RESERVED, AK10 RESERVED, AK11 GND, AK12 RESERVED, AK13 RESERVED, AK14 GND, AK17 GND, AK18 RESERVED, AK19 RESERVED, AK20 GND, AK21 RESERVED, AK22 RESERVED, AK23 GND, AK26 GND, AL2 GND, AL5 GND, AL7 GND, AL8 GND, AL9 GND, AL11 GND, AL12 GND, AL14 GND, AL15 GND, AL17 GND, AL18 GND, AL20 GND, AL21 GND, AL23 GND, AL24 GND, AL26 GND, AL29 GND, AL31 GND, AM7 GND, AM8 GND, AM9 GND, AM11 GND, AM12 GND, AM14 GND, AM15 GND, AM17 GND, AM18 GND, AM20 GND, AM21 GND, AM23 GND, AM24 GND, AM26 GND, B2 GND, B5 GND, B9 GND, B13 GND, B15 GND, B18 GND, B20 GND, B24 GND, B28 GND, B31 GND, E2 GND, E5 GND, E7 NC, E9 GND, E13 GND, E15 GND, E18 GND, E20 GND, E24 GND, E26 NC, E28 GND, E31 GND, G9 NC, G10 NC, G11 NC, G14 NC, G15 NC, G16 NC, G17 NC, G18 NC, G19 NC, G22 NC, G23 NC, G24 NC, H29 NC, J2 GND, J5 GND, J28 GND, J31 GND, K10 GND, K11 GND, K13 VCCAUX, K20 VCCAUX, K22 GND, K23 GND, L10 GND, L11 GND, L12 GND, L13 GND, L14 GND, L15 GND, L16 GND, L17 GND, L18 GND, L19 GND, L20 GND, L21 GND, L22 GND, L23 GND, L28 NC, M11 GND, M12 VCC, M13 VCC, M14 VCC, M15 VCC, M16 VCC, M17 VCC, M18 VCC, M19 VCC, M20 VCC, M21 VCC, M22 GND, N2 GND, N5 GND, N10 VCCAUX, N11 GND, N12 VCC, N13 GND, N14 GND, N15 GND, N16 GND, N17 GND, N18 GND, N19 GND, N20 GND, N21 VCC, N22 GND, N23 VCCAUX, N28 GND, N31 GND, P11 GND, P12 VCC, P13 GND, P14 GND, P15 GND, P16 GND, P17 GND, P18 GND, P19 GND, P20 GND, P21 VCC, P22 GND, R2 GND, R5 GND, R11 GND, R12 VCC, R13 GND, R14 GND, R15 GND, R16 GND, R17 GND, R18 GND, R19 GND, R20 GND, R21 VCC, R22 GND, R28 GND, R31 GND, T11 GND, T12 VCC, T13 GND, T14 GND, T15 GND, T16 GND, T17 GND, T18 GND, T19 GND, T20 GND, T21 VCC, T22 GND, U11 GND, U12 VCC, U13 GND, U14 GND, U15 GND, U16 GND, U17 GND, U18 GND, U19 GND, U20 GND, U21 VCC, U22 GND, V2 GND, V5 GND, V11 GND, V12 VCC, V13 GND, V14 GND, V15 GND, V16 GND, V17 GND, V18 GND, V19 GND, V20 GND, V21 VCC, V22 GND, V28 GND, V30 NC, V31 GND, W11 GND, W12 VCC, W13 GND, W14 GND, W15 GND, W16 GND, W17 GND, W18 GND, W19 GND, W20 GND, W21 VCC, W22 GND, W27 NC, Y2 GND, Y10 VCCAUX, Y11 GND, Y12 VCC, Y13 GND, Y14 GND, Y15 GND, Y16 GND, Y17 GND, Y18 GND, Y19 GND, Y20 GND, Y21 VCC, Y22 GND, Y23 VCCAUX, Y31 GND
part B pins: A2 PT6A, A3 PT6B, A4 PT9A, A5 PT9B, A7 PT13B, A8 PT20B, A9 PT24B, A10 PT31B, A11 PT38B, A13 PT42B, A14 PT49B, A15 PT54B, A16 PT60B, A17 PT63A, B3 PT4A, B4 PT4B, B7 PT13A, B8 PT20A, B10 PT31A, B11 PT38A, B14 PT49A, B16 PT60A, B17 PT63B, C7 PT11B, C8 PT18B, C9 PT24A, C10 PT29B, C11 PT36B, C13 PT42A, C14 PT47B, C15 PT54A, C16 PT58B, C17 PT65A, D7 PT11A, D8 PT18A, D9 PT22B, D10 PT29A, D11 PT36A, D13 PT40B, D14 PT47A, D15 PT51B, D16 PT58A, D17 PT65B, E8 PT15B, E10 PT27B, E11 PT33B, E14 PT45B, E16 PT56B, F8 PT15A, F9 PT22A, F10 PT27A, F11 PT33A, F13 PT40A, F14 PT45A, F15 PT51A, F16 PT56A, K12 VCCIO0, K14 VCCIO0, K15 VCCIO0, K16 VCCIO0, W6 NC
part C pins: A18 PT71A, A19 PT76A, A20 PT83A, A22 PT87A, A23 PT94A, A24 PT101A, A25 PT105A, A26 PT112A, A28 PT116A, A29 PT116B, A30 PT119A, A31 PT119B, B19 PT76B, B22 PT87B, B23 PT94B, B25 PT105B, B26 PT112B, B29 PT121A, B30 PT121B, C18 PT71B, C19 PT78A, C20 PT83B, C22 PT89A, C23 PT96A, C24 PT101B, C25 PT107A, C26 PT114A, D18 PT74A, D19 PT78B, D20 PT85A, D22 PT89B, D23 PT96B, D24 PT103A, D25 PT107B, D26 PT114B, E17 PT69A, E19 PT80A, E22 PT92A, E23 PT98A, E25 PT110A, F17 PT69B, F18 PT74B, F19 PT80B, F20 PT85B, F22 PT92B, F23 PT98B, F24 PT103B, F25 PT110B, K17 VCCIO1, K18 VCCIO1, K19 VCCIO1, K21 VCCIO1, L5 NC
part D pins: B32 PR17A, C28 PR11A, C29 PR11C, C30 PR11D, C31 PR17B, C32 PR20C, D28 PR11B, D29 PR14A, D30 PR17C, D31 PR17D, D32 PR20D, E29 PR14B, E30 PR20B, E32 PR23B, F28 PR14D, F29 PR14C, F30 PR20A, F31 PR23A, F32 PR23C, H4 NC, H27 PR35A, H28 PR35B, H30 PR26B, H31 PR26A, H32 PR23D, J26 PR35C, J27 PR35D, J29 PR32C, J30 PR26C, J32 PR29B, K26 PR38B, K27 PR38A, K28 PR38C, K29 PR32D, K30 PR26D, K31 PR29A, K32 PR29C, L26 PR41C, L27 PR41D, L29 PR38D, L30 PR32B, L31 PR32A, L32 PR29D, M23 VCCIO2, N26 PR44B, N27 PR44A, N29 PR41B, N30 PR41A, P23 VCCIO2, P26 PR44D, P27 PR44C, R23 VCCIO2, T23 VCCIO2
part E pins: AA23 VCCIO3, AB26 PR74C, AB27 PR77B, AB28 PR77A, AB29 PR83B, AB30 PR83A, AB31 PR89B, AB32 PR92A, AC4 NC, AC26 PR77C, AC27 PR74D, AC28 PR83C, AC30 PR89A, AC31 PR89C, AC32 PR92B, AD26 PR77D, AD27 PR80A, AD29 PR83D, AD30 PR86C, AD32 PR92C, AE27 PR80B, AE28 PR80C, AE29 PR80D, AE30 PR86D, AE31 PR89D, AE32 PR92D, N32 PR62A, P28 PR47A, P29 PR47B, P30 PR59B, P31 PR59A, P32 PR62B, R26 PR47C, R27 PR50A, R29 PR53A, R30 PR59C, R32 PR65A, T26 PR47D, T27 PR50B, T28 PR53B, T29 PR53C, T30 PR59D, T31 PR65B, T32 PR68A, U23 VCCIO3, U26 PR50D, U27 PR50C, U28 PR53D, U29 PR56A, U30 PR62D, U31 PR62C, U32 PR68B, V23 VCCIO3, V26 PR56D, V27 PR56C, V29 PR56B, V32 PR68C, W23 VCCIO3, W28 PR71D, W29 PR74B, W30 PR65C, W31 PR86A, W32 PR68D, Y26 PR71A, Y27 PR71B, Y28 PR71C, Y29 PR74A, Y30 PR65D, Y32 PR86B
part F pins: AB23 VCCIO4, AC23 VCCIO4, AG28 PB110A, AG29 PB110B, AG30 PB114B, AG32 PB119B, AH28 PB112B, AH30 PB114A, AH32 PB119A, AJ28 PB112A, AJ29 PB121A, AJ30 PB121B, AJ31 PB105B, AJ32 PB101B, AK28 PB98B, AK29 PB116A, AK30 PB116B, AK31 PB105A, AK32 PB101A, AL28 PB98A, AL30 PB103B, AL32 PB107B, AM28 PB96A, AM29 PB96B, AM30 PB103A, AM31 PB107A, V3 NC
part G pins: AA10 VCCIO6, AB1 PL92A, AB2 PL89B, AB3 PL83A, AB4 PL83B, AB5 PL77A, AB6 PL77B, AB7 PL74C, AC1 PL92B, AC2 PL89C, AC3 PL89A, AC5 PL83C, AC6 PL74D, AC7 PL77C, AD1 PL92C, AD3 PL86C, AD4 PL83D, AD6 PL80A, AD7 PL77D, AE1 PL92D, AE2 PL89D, AE3 PL86D, AE4 PL80D, AE5 PL80C, AE6 PL80B, AG2 NC, N1 PL62A, P1 PL62B, P2 PL59A, P3 PL59B, P4 PL47B, P5 PL47A, R1 PL65A, R3 PL59C, R4 PL53A, R6 PL50A, R7 PL47C, T1 PL68A, T2 PL65B, T3 PL59D, T4 PL53C, T5 PL53B, T6 PL50B, T7 PL47D, U1 PL68B, U2 PL62C, U3 PL62D, U4 PL56A, U5 PL53D, U6 PL50C, U7 PL50D, U10 VCCIO6, V1 PL68C, V4 PL56B, V6 PL56C, V7 PL56D, V10 VCCIO6, W1 PL68D, W2 PL86A, W3 PL65C, W4 PL74B, W5 PL71D, W10 VCCIO6, Y1 PL86B, Y3 PL65D, Y4 PL74A, Y5 PL71C, Y6 PL71B, Y7 PL71A
part H pins: B1 PL17A, C1 PL20C, C2 PL17B, C3 PL11D, C4 PL11C, C5 PL11A, D1 PL20D, D2 PL17D, D3 PL17C, D4 PL14A, D5 PL11B, E1 PL23B, E3 PL20B, E4 PL14B, F1 PL23C, F2 PL23A, F3 PL20A, F4 PL14C, F5 PL14D, H1 PL23D, H2 PL26A, H3 PL26B, H5 PL35B, H6 PL35A, J1 PL29B, J3 PL26C, J4 PL32C, J6 PL35D, J7 PL35C, K1 PL29C, K2 PL29A, K3 PL26D, K4 PL32D, K5 PL38C, K6 PL38A, K7 PL38B, L1 PL29D, L2 PL32A, L3 PL32B, L4 PL38D, L6 PL41D, L7 PL41C, M10 VCCIO7, N3 PL41A, N4 PL41B, N6 PL44A, N7 PL44B, P6 PL44C, P7 PL44D, P10 VCCIO7, R10 VCCIO7, T10 VCCIO7
part I pins: AB10 VCCIO8, AC10 VCCIO8, AG1 PB4A, AG3 PB13A, AH1 PB4B, AH3 PB13B, AJ1 PB6A, AJ2 PB11A, AJ3 PB15A, AK1 PB6B, AK2 PB11B, AK3 PB15B, AL1 PB9A, AL3 PB18A, AM2 PB9B
part J pins: AG4 ~{{INIT}}, AG5 TDO, AH4 ~{{PROGRAM}}, AJ4 DONE, AJ5 TDI, AK4 CFG_2, AK5 TCK, AK15 RESERVED, AK16 RESERVED, AK24 RESERVED, AK25 RESERVED, AL4 CFG_1, AM3 CCLK, AM4 CFG_0, AM5 TMS

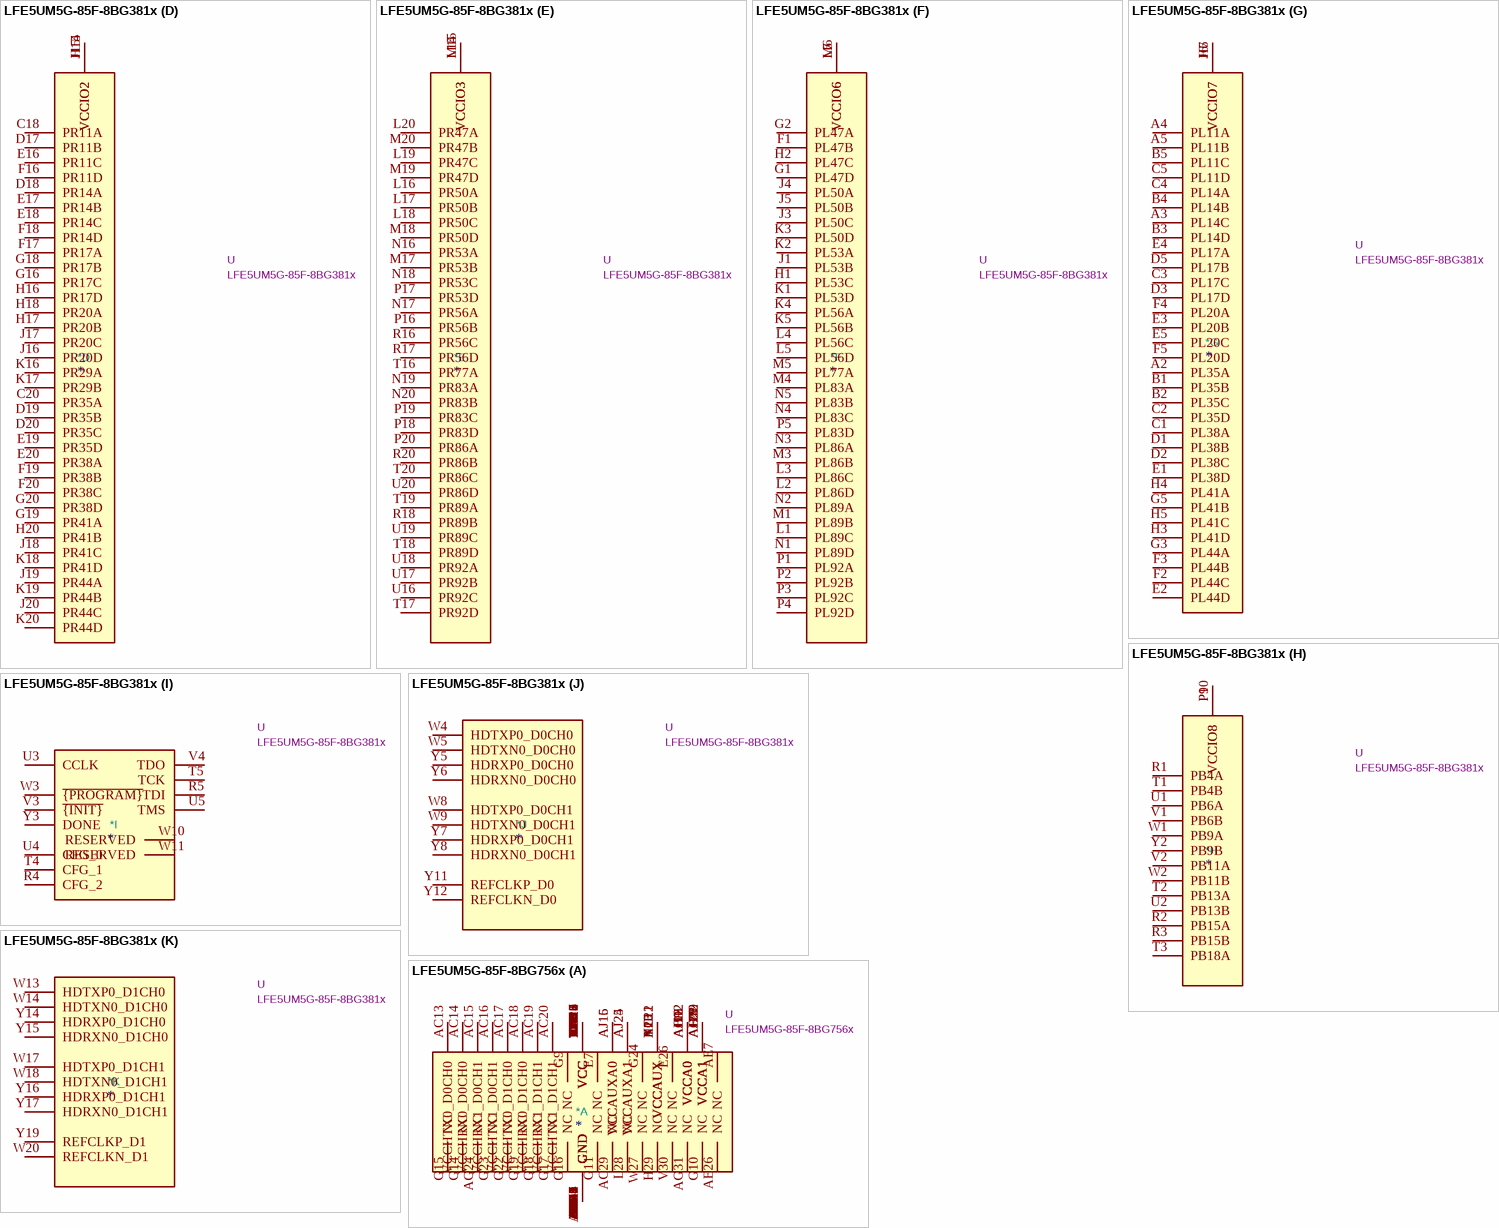
[diagram p11: symbols LFE5UM5G-85F-8BG381x to LFE5UM5G-85F-8BG756x]